# Altium schematic symbol library Mind Terrorists.SchLib: 174 symbols (part 1 of 2)
Pins are listed as number, name and electrical type; pins without a type are passive.

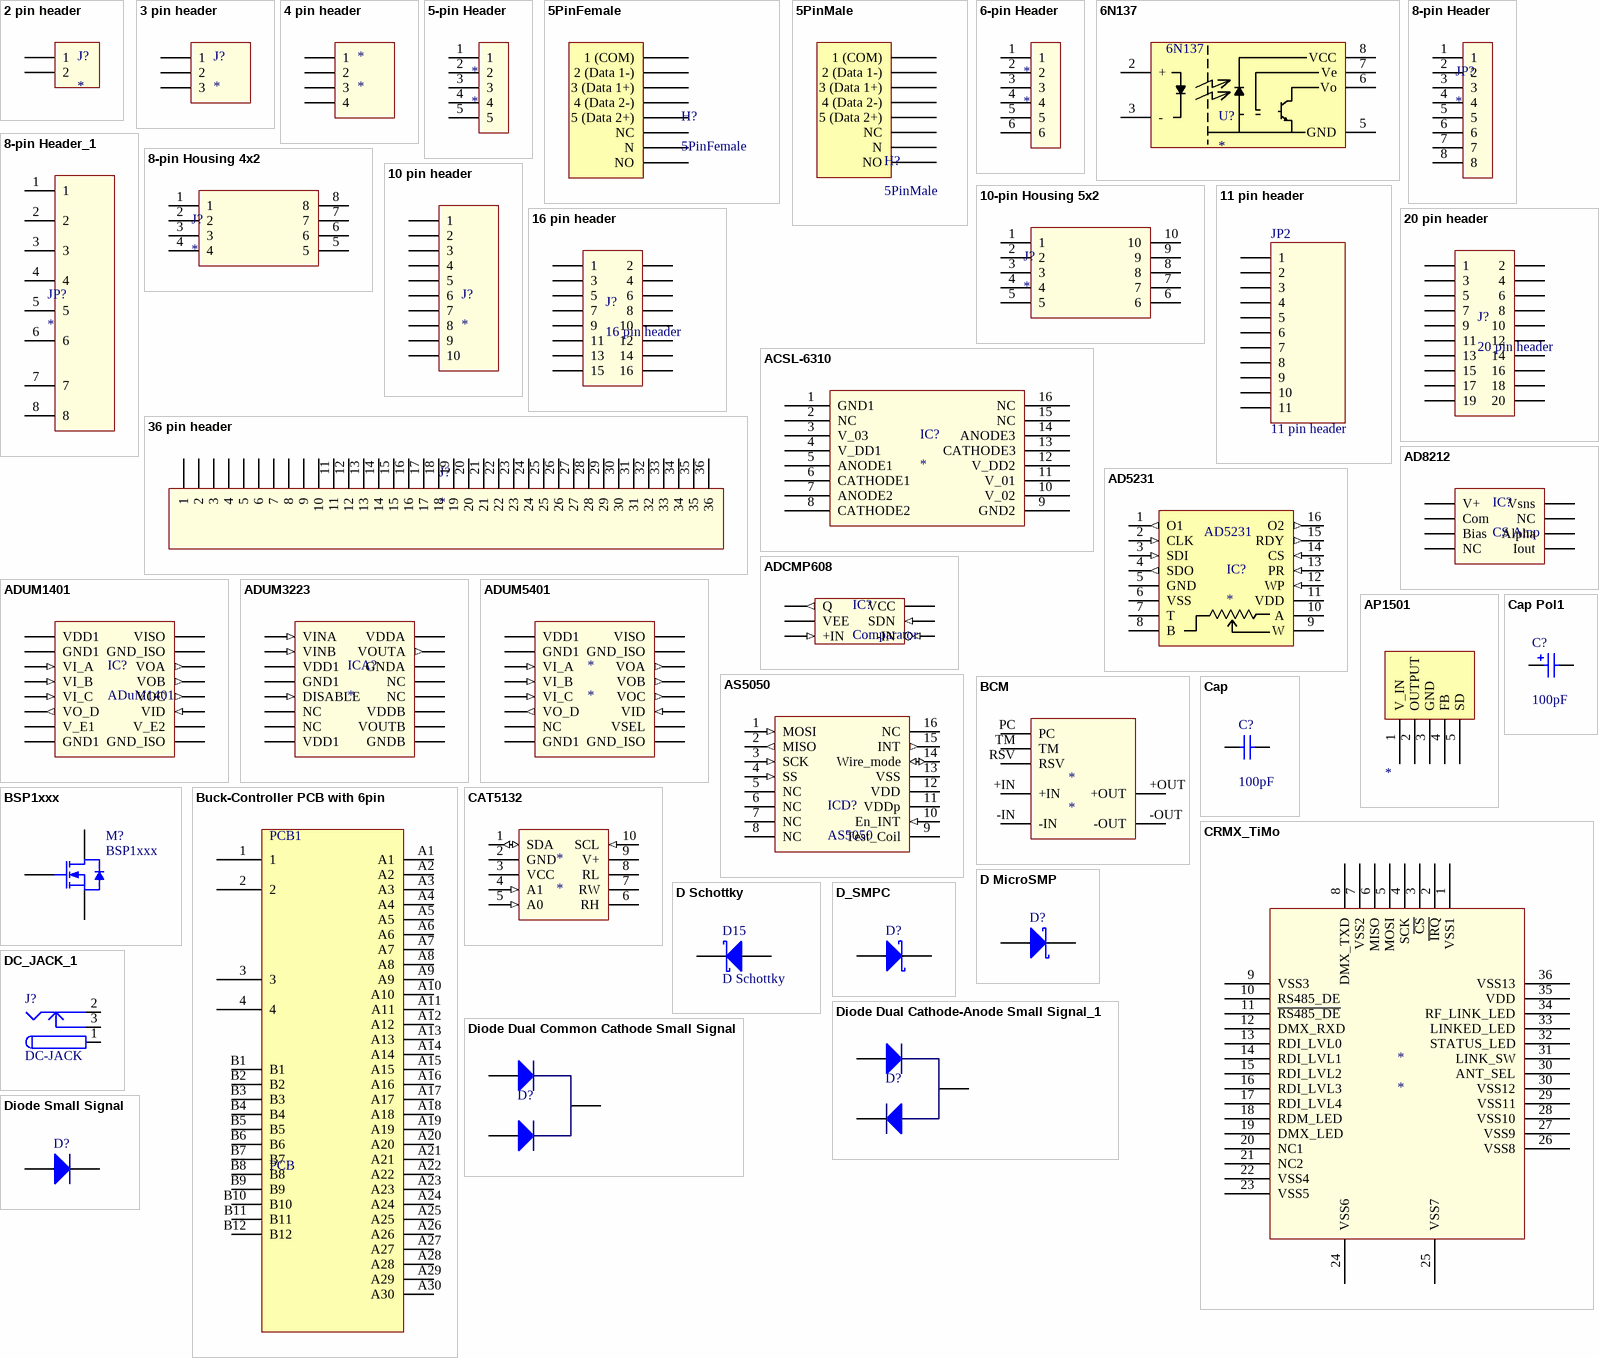
[diagram p0: symbols 2 pin header to Diode Small Signal]

## 2 pin header
designator J?
footprint Header, 1x2, Hybrid 2.54mm (1x2 Header, Hybrid 2.54mm pitch female above/below)
footprint IDC SSL 2 (TE Connectivity 2106003-4 Connecgtor for 18AWG)
footprint AVX 13-9159-2 (2 pin vert btb connector)
footprint AVX 20-9159-2 (2 pin horiz btb receptacle)
footprint Header, 1x2, THT 2.54mm (1x2 Header, THT 2.54mm pitch vertical unshrouded)
pins: 1, 2

## 3 pin header
designator J?
footprint SPOX-03-VE (Molex Spox 3 pin header SMT 1.5mm pitch Vert)
footprint SPOX-3-RA (Molex Spox 3 pin header SMT 1.5mm pitch)
footprint GHR-03V-S (JST GH Series 3 pin Horizontal SMT Header, 1.25mm pitch)
footprint Header, 1x3, SMT 2.54mm (1x3 Header, SMT 2.54mm pitch vertical unshrouded)
pins: 1, 2, 3

## 4 pin header
designator *
footprint SPOX-04-VE (Molex Spox 4 pin header SMT 1.5mm pitch Vert)
footprint AuFingers-4 (1mm Pitch Gold fingers edge connections, 6 contacts)
footprint RJ11_VERT_SMD (MOLEX 85513-5004 4/4)
footprint IDC SSL 4 (TE Connectivity 2106003-4 Connecgtor for 18AWG)
footprint AVX 13-9159-4 (4 pin vert btb connector)
footprint AVX 20-9159-4 (4 pin horiz btb receptacle)
footprint AVX 00-9159-004 - top (4 pin vert pcb top entry board receptacle)
footprint PCB-2-Screw Terminal (Screw Terminal)
pins: 1, 2, 3, 4

## 5-pin Header
designator *
footprint Molex 1.5mm SMT Header 05 (Molex 87437-05xx 5 pin Vertical SMT Header, 1.5mm pitch)
footprint ZH SM4 5 pin (ZH SM4 5 pin header SMT 1.5mm pitch R/A)
footprint AuFingers-5 (1mm Pitch Gold fingers edge connections, 6 contacts)
pins: 1, 2, 3, 4, 5

## 5PinFemale
designator H?
footprint NC5FAV-SW
pins: 1 1 (COM), 2 2 (Data 1-), 3 3 (Data 1+), 4 4 (Data 2-), 5 5 (Data 2+), N, NC, NO

## 5PinMale
designator H?
footprint NC5MAV-SW
pins: 1 1 (COM), 2 2 (Data 1-), 3 3 (Data 1+), 4 4 (Data 2-), 5 5 (Data 2+), N, NC, NO

## 6-pin Header
designator *
footprint Header, 2x3, SMT 2.54mm (2x3 Header, SMT 2.54mm pitch vertical unshrouded)
footprint AuFingers-6 (1mm Pitch Gold fingers edge connections, 6 contacts)
footprint Poke-Home (Poke-Home 6 way 9276 Wire to Board Connector)
footprint AVX 00-9159-006 - top (6 pin vert pcb top entry board receptacle)
pins: 1, 2, 3, 4, 5, 6

## 6N137
designator U?
10Mbps Opto-Isolator
pins: 1 N/C hidden, 2 + "Anode", 3 - "Cathode", 4 N/C hidden, 5 GND (power), 6 Vo "V out", 7 Ve "V e", 8 VCC (power)

## 8-pin Header
designator JP?
footprint Poke-Home 8 (Poke-Home 8 way 9276 Wire to Board Connector)
footprint RJ45_VERT_SMD (MOLEX 85510-5020 8/8)
footprint 50mm PFC PCB Card Edge Pattern-2 (Edge Connector Pattern)
footprint Header, 2x4, SMT 2.54mm (2x4 Header, SMT 2.54mm pitch vertical unshrouded)
pins: 1, 2, 3, 4, 5, 6, 7, 8

## 8-pin Header_1
designator JP?
footprint Poke-Home 8 (Poke-Home 8 way 9276 Wire to Board Connector)
footprint RJ45_VERT_SMD (MOLEX 85510-5020 8/8)
footprint 50mm PFC PCB Card Edge Pattern-2 (Edge Connector Pattern)
footprint Header, 2x4, SMT 2.54mm (2x4 Header, SMT 2.54mm pitch vertical unshrouded)
pins: 1, 2, 3, 4, 5, 6, 7, 8

## 8-pin Housing 4x2
designator J?
pins: 1, 2, 3, 4, 5, 6, 7, 8

## 10 pin header
designator J?
footprint SPOX-10-RA (Molex Spox 10 pin header SMT 1.5mm pitch)
footprint SPOX-10-VE (Molex Spox 10 pin header SMT 1.5mm pitch)
footprint Header, 2x5, SMT 1.27mm (2x5 Header, SMT 1.27 mm pitch vertical unshrouded)
pins: 1, 2, 3, 4, 5, 6, 7, 8, 9, 10

## 10-pin Housing 5x2
designator J?
footprint Header, 2x5, SMT 2.54mm (2x4 Header, SMT 2.54mm pitch vertical unshrouded)
pins: 1, 2, 3, 4, 5, 6, 7, 8, 9, 10

## 11 pin header
designator JP2
footprint SPOX-11-VE (Molex Spox 11 pin header SMT 1.5mm pitch)
pins: 1, 2, 3, 4, 5, 6, 7, 8, 9, 10, 11

## 16 pin header
designator J?
16 pin rectangular header
footprint Header, 2x8, SMT 2.54mm (2x8 Header, SMT 2.54mm pitch vertical unshrouded)
footprint Header, 2x8, SMT 1.27mm (2x8 Header, SMT 1.27 mm pitch vertical unshrouded)
pins: 1, 2, 3, 4, 5, 6, 7, 8, 9, 10, 11, 12, 13, 14, 15, 16

## 20 pin header
designator J?
20 pin rectangular header
footprint Header, 2x10, SMT 2.54mm (2x10 Header, SMT 2.54mm pitch vertical unshrouded)
pins: 1, 2, 3, 4, 5, 6, 7, 8, 9, 10, 11, 12, 13, 14, 15, 16, 17, 18, 19, 20

## 36 pin header
designator J?
footprint SmartDriver PCB Card Edge Pattern (1mm Pitch edge connection for 0.8mm PCB, 4 contacts)
pins: 1, 2, 3, 4, 5, 6, 7, 8, 9, 10, 11, 12, 13, 14, 15, 16, 17, 18, 19, 20, 21, 22, 23, 24, 25, 26, 27, 28, 29, 30, 31, 32, 33, 34, 35, 36

## ACSL-6310
designator IC?
Avago 15 Mbps Optocoupler Triple Ch Bi-direct (2/1)
footprint SO16 SMD Avago (Avago SO16, 16-Leads, Body 10.0x4.0mm (max), Pitch 1.27mm, IPC Medium Density)
pins: 1 GND1, 2 NC, 3 V_03, 4 V_DD1, 5 ANODE1, 6 CATHODE1, 7 ANODE2, 8 CATHODE2, 9 GND2, 10 V_02, 11 V_01, 12 V_DD2, 13 CATHODE3, 14 ANODE3, 15 NC, 16 NC

## AD5231
designator IC?
1024-Position Digital Potentiometer
footprint TSSOP 16 Leads (16-Lead Thin Shrink Small Outline Package [TSSOP], IPC Medium Density)
pins: 1 O1 (out) "Nonvolatile Digital Output 1", 2 CLK (in) "Serial Input Register Clock Pin", 3 SDI (in) "Serial Data Input Pin", 4 SDO (out) "Serial Data Output Pin", 5 GND (power) "Ground Pin", 6 VSS (power) "Negative Supply. Connect to 0 V for single-supply applications", 7 T "Reserved for factory testing. Connect to VDD or VSS", 8 B "Terminal B of RDAC.", 9 W "Wiper Terminal of RDAC", 10 A "Terminal A of RDAC", 11 VDD (power) "Positive Power Supply Pin", 12 WP (in) "Optional Write Protect Pin", 13 PR (in) "Optional Hardware Override Preset Pin", 14 CS (in) "Serial Register Chip Select Active Low", 15 RDY (out) "Ready. Active-high open-drain output", 16 O2 (out) "Nonvolatile Digital Output 2."

## AD8212
designator IC?, comment CS Amp
Current Sense Amp Current mode
footprint MSOP-8, 3mmx3mm, 0.65mm (MSOP, 8-Leads, Body 3.0x3.0mm (max), Pitch 0.65mm, IPC Medium Density)
pins: 1 V+, 2 Com, 3 Bias, 4 NC, 5 Iout, 6 Alpha, 7 NC, 8 Vsns

## ADCMP608
designator IC?, comment Comparator
40ns Comparator; Manufacturer: AD
pins: 1 Q (out), 2 VEE (power), 3 +IN (in), 4 -IN (in), 5 SDN (in), 6 VCC (power)

## ADUM1401
designator IC?, comment ADuM1401
ADuM1401 Isolator; Value: ADuM1401
footprint SOIC_W 16 (SOIC, 16-Leads, Body 10.5x7.6mm (max), Pitch 1.27mm, IPC Medium Density)
pins: 1 VDD1 (power), 2 GND1 (power), 3 VI_A (in), 4 VI_B (in), 5 VI_C (in), 6 VO_D (out), 7 V_E1, 8 GND1 (power), 9 GND_ISO (power), 10 V_E2 (power), 11 VID (in), 12 VOC (out), 13 VOB (out), 14 VOA (out), 15 GND_ISO (power), 16 VISO (power)

## ADUM3223
designator ICA?
HF Isolated Gate Driver
footprint SOIC127P600X175-16N (SOIC, 16-Leads, Body 10.0x4.0mm (max), Pitch 1.27mm, IPC Medium Density)
pins: 1 VINA (in), 2 VINB (in), 3 VDD1 (power), 4 GND1 (power), 5 DISABLE (in), 6 NC, 7 NC, 8 VDD1 (power), 9 GNDB (power), 10 VOUTB (power), 11 VDDB (power), 12 NC, 13 NC, 14 GNDA (power), 15 VOUTA (out), 16 VDDA (power)

## ADUM5401
designator *
footprint SOIC_W 16 (SOIC, 16-Leads, Body 10.5x7.6mm (max), Pitch 1.27mm, IPC Medium Density)
pins: 1 VDD1 (power), 2 GND1 (power), 3 VI_A (in), 4 VI_B (in), 5 VI_C (in), 6 VO_D (out), 7 NC, 8 GND1 (power), 9 GND_ISO (power), 10 VSEL (power), 11 VID (in), 12 VOC (out), 13 VOB (out), 14 VOA (out), 15 GND_ISO (power), 16 VISO (power)

## AP1501
designator ?
pins: 1 V_IN, 2 OUTPUT, 3 GND, 4 FB, 5 SD

## AS5050
designator ICD?
footprint AS5050 (QFN, 16-Leads, Body 4.0x4.0mm (max), Pitch 0.65mm, IPC Medium Density)
pins: 1 MOSI (in), 2 MISO (out), 3 SCK (in), 4 SS (in), 5 NC, 6 NC, 7 NC, 8 NC, 9 Test_Coil, 10 En_INT (in), 11 VDDp, 12 VDD (power), 13 VSS (power), 14 Wire_mode (io), 15 INT (out), 16 NC

## BCM
designator *
footprint BCM HV (Vicor High Voltage BCM)
pins: +IN (power), +OUT (power), -IN (power), -OUT (power), PC, RSV, TM

## BSP1xxx
designator M?
N-Channel Depletion Mode MOSFET
footprint PG-SOT-223 (SOT223, 4-Leads, Body 6.7x7.3mm (max), Pitch 2.30mm, IPC Medium Density); pin to pad 2>2+4
pins: 1 G, 2 D, 3 S

## Buck-Controller PCB with 6pin
designator PCB1, comment PCB
Value: N.B.; KZB: PCB
footprint Buck+Controller PCB Card Edge Pattern - 6pol (Edge Connector Pattern)
pins: 1, 2, 3, 4, A1, A2, A3, A4, A5, A6, A7, A8, A9, A10, A11, A12, A13, A14, A15, A16, A17, A18, A19, A20, A21, A22, A23, A24, A25, A26, A27, A28, A29, A30, B1, B2, B3, B4, B5, B6, B7, B8, B9, B10, B11, B12

## Cap
designator C?  value 100pF
Capacitor; Published: 8-Jun-2000; LatestRevisionDate: 17-Jul-2002; LatestRevisionNote: Re-released for DXP Platform.; PackageReference: RAD-0.3; Publisher: Altium Limited
footprint RAD-0.3 (Capacitor; 2 Leads)
footprint VP32-3.2 (Capacitor, Ceramic, Thru-Hole, Dipped Radial; Body 5.1 x 3.2 mm (WxT) Pin Spacing 2.54 mm (typ))
footprint VP45-3.2 (Capacitor, Ceramic, Thru-Hole, Dipped Radial; Body 7.8 x 3.2 mm (WxT) Pin Spacing 5.08 mm (typ))
simulation model CAP (Capacitor)
signal-integrity model Cap
footprint 0805 Resistor Reflow profile (0805 Chip Resistor, 2-Leads, Body 2.0x1.3mm, IPC Low Density)
footprint Chip Cap 2220 (Chip Capacitor, 2-Leads, Body 5.7x5.0mm, GRM55, C5750)
footprint Chip Cap 2220 w/ Slot (Chip Capacitor, 2-Leads, Body 5.7x5.0mm, GRM55, C5750)
footprint Chip Cap 0603 (Chip Capacitor, 2-Leads, Body 1.6x0.8mm, IPC Low Density)
footprint Chip Cap 0805 (0805  Chip Capacitor, 2-Leads, Body 2.0x1.3mm, IPC Low Density, Reflow Profile)
footprint Chip Cap 1206 (Chip Capacitor, 2-Leads, Body 3.2x1.6mm, IPC Low Density)
footprint Film Cap 6064 (Chip Film Capacitor, 6064 Package, IPC Medium Density)
footprint CHIP CAP 1210 (1210 Chip Capacitor, 2-Leads, Body 3.2x2.5mm, IPC Low Density)
pins: 1, 2

## Cap Pol1
designator C?  value 100pF
Polarized Capacitor (Radial); Published: 8-Jun-2000; LatestRevisionDate: 17-Jul-2002; LatestRevisionNote: Re-released for DXP Platform.; PackageReference: RB7.6-15; Publisher: Altium Limited
footprint RB7.6-15 (Polarized Capacitor (Radial); 2 Leads)
footprint HA-C1 (Capacitor, Radial, Tantalum; Body 1.7 x 2.8 mm (Dia.xH max); Pin Spacing 1.27 mm (typ))
footprint A (Capacitor, Electrolytic, Radial; Body 4 x 5 mm (Dia.xH typ); Pin Spacing 1.5 mm (typ))
footprint B (Capacitor, Electrolytic, Radial; Body 5 x 6.8 mm (Dia.xH typ); Pin Spacing 2 mm (typ))
footprint CAPPR5-5x5 (Capacitor, Electrolytic, Radial; Body 5 x 5 mm (Dia.xH typ); Pin Spacing 5 mm (typ))
footprint CAPPR7.5-16x35 (Capacitor, Electrolytic, Radial; Body 16 x 35 mm (Dia.xH typ); Pin Spacing 7.5 mm (typ))
simulation model CAP (Capacitor)
signal-integrity model Cap Pol
footprint C-TANTALUM
footprint RADIAL CAPACITOR - 1uF
footprint RADIAL CAPACITOR - 1000uF
footprint Tantalum Cap Size D (Tantalum D Cap, 2-Leads, Body 7.3x4.3mm, IPC Medium Density)
footprint VZH 10mm Cap (SMT Aluminum Capacitor 2-Leads, Body 10.4x10.4mm, IPC Medium Density)
pins: 1, 2
1 alternate drawing of the same symbol

## CAT5132
designator *
footprint 10-Lead MSOP Package (National Semiconductor Package Number MUB10A 10-Lead MSOP Package)
pins: 1 SDA (io), 2 GND (power), 3 VCC (power), 4 A1 (in), 5 A0 (in), 6 RH, 7 RW, 8 RL, 9 V+, 10 SCL (in)

## CRMX_TiMo
designator *
footprint TiMo-RX-RDM
pins: 1 VSS1, 2 ~{IRQ}, 3 ~{CS}, 4 SCK, 5 MOSI, 6 MISO, 7 VSS2, 8 DMX_TXD, 9 VSS3, 10 RS485_DE, 11 ~{RS485_DE}, 12 DMX_RXD, 13 RDI_LVL0, 14 RDI_LVL1, 15 RDI_LVL2, 16 RDI_LVL3, 17 RDI_LVL4, 18 RDM_LED, 19 DMX_LED, 20 NC1, 21 NC2, 22 VSS4, 23 VSS5, 24 VSS6, 25 VSS7, 26 VSS8, 27 VSS9, 28 VSS10, 29 VSS11, 30 VSS12, 30 ANT_SEL, 31 LINK_SW, 32 STATUS_LED, 33 LINKED_LED, 34 RF_LINK_LED, 35 VDD, 36 VSS13

## D MicroSMP
designator D?, comment D MicroSMP Schottky  (value not drawn)
MicroSMP Schottky Diode; PackageReference: SMPC; Code_JEDEC: DO-277-A
signal-integrity model D Schottky
footprint MicroSMP (Molded Diode, 2-Leads, Body 2.2x1.3mm, IPC Medium Density)
pins: 1 K, 2 A

## D Schottky
designator D15
Schottky Diode; Part Number: ES1J; Value: 600v/1A; Order Number: 1498951; Supplier: Farnell; Package: SMA DO-214AC
footprint SMB (DO-214-AA/SMB; 2 C-Bend Leads; Body 5.3 x 3.6 mm, inc. leads (LxW))
footprint SMA DO-214AC (Molded Diode, 2-Leads, Body 4.3x2.7mm, IPC Medium Density)
footprint SOT-23-OnSemi (SOT23-3); pin to pad 1>3 2>1
pins: 1 K, 2 A

## D_SMPC
designator D?, comment SMPC Schottky  (value not drawn)
SMPC Schottky Diode; PackageReference: SMPC; Code_JEDEC: DO-277-A
signal-integrity model D Schottky
footprint SMPC (TO-277A (SMPC) Package)
footprint eSMPC (TO-277A (SMPC) Package)
pins: 1 A, 2 K

## DC_JACK_1
designator J?, comment DC-JACK
Low Voltage Power Supply Connector; Published: 17-Dec-2003; DatasheetDocument: 09-May-2002; Publisher: Altium Limited; ComponentLink1Description: Manufacturer Link; ComponentLink1URL: http://domino.kycon.com/internet/Products.html
signal-integrity model Connector
footprint DC-JACK-1.0-4.5 (DC Power Jack 4.5mm DIa, 1.0mm pin)
pins: 1 (power), 2 (power), 3 (power)

## Diode Dual Cathode-Anode Small Signal_1
designator D?, comment Diode  (value not drawn)
Dual Cathode-Anode Small Signal Diode
footprint SOT-23-OnSemi (SOT23-3)
pins: 1 A, 2 K, 3 KA

## Diode Dual Common Cathode Small Signal
designator D?, comment Diode  (value not drawn)
Small Signal Diode; PackageReference: SMPC; Code_JEDEC: DO-277-A
footprint SOT-23-OnSemi (SOT23-3)
pins: 1 A, 2 A, 3 K

## Diode Small Signal
designator D?, comment Diode  (value not drawn)
Small Signal Diode; PackageReference: SMPC; Code_JEDEC: DO-277-A
signal-integrity model D Schottky
footprint SOD-80/Mini-MELF (SOD-80/Mini-MELF Diode, 2-Leads, Body 3.5x1.5mm, IPC Low Density)
footprint SOD123-1 (SOD123 Diode, Body 2.7x1.6mm, IPC Low Density)
footprint 0603 Diode (Molded Diode, 2-Leads, Body 1.7x0.9mm, IPC Medium Density)
footprint SOT-23-OnSemi (SOT23-3); pin to pad 1>3 2>1
pins: 1 K, 2 A

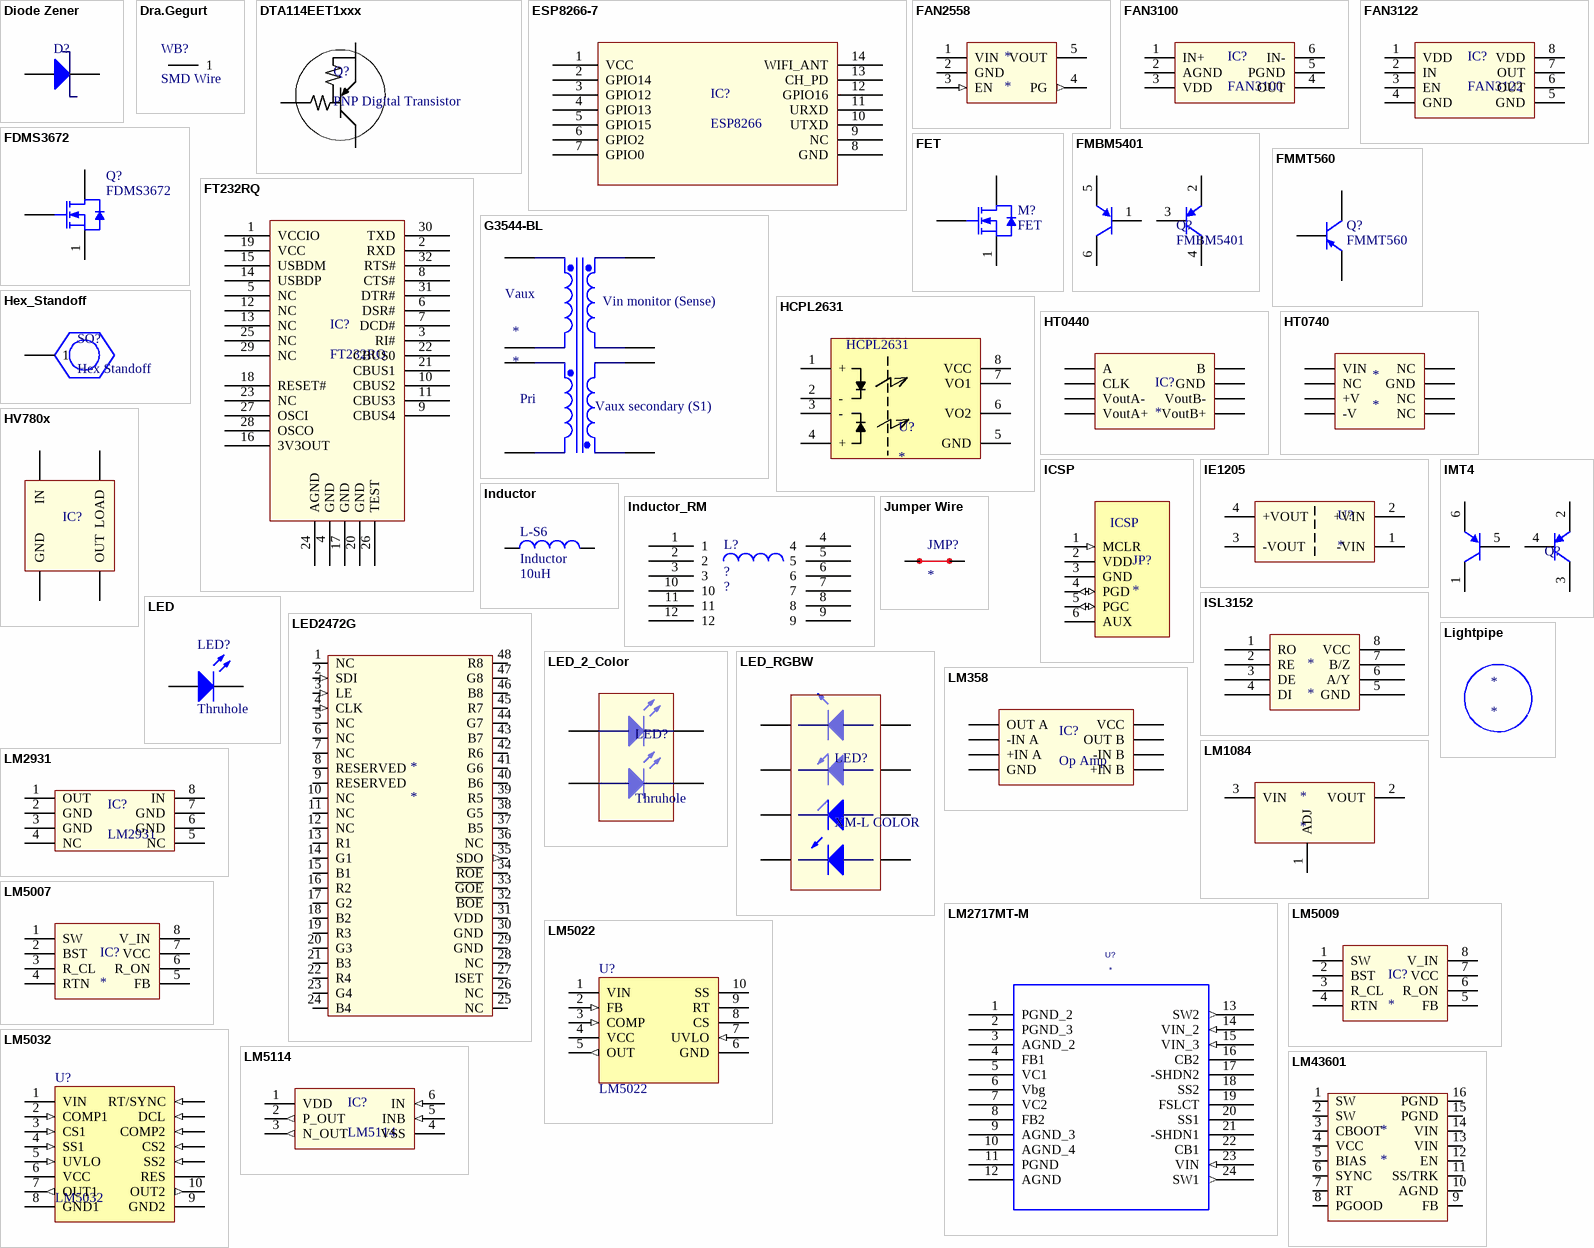
[diagram p1: symbols Diode Zener to LM43601]

## Diode Zener
designator D?, comment Diode  (value not drawn)
Miniature Zener Diode; PackageReference: SMPC; Code_JEDEC: DO-277-A
footprint SOD-80/Mini-MELF (SOD-80/Mini-MELF Diode, 2-Leads, Body 3.5x1.5mm, IPC Low Density)
footprint Model Name (Footprint not found)
footprint DIOM1608X07N (Molded Diode, 2-Leads, Body 1.2x0.8mm, IPC Medium Density)
pins: 1 K, 2 A

## Dra.Gegurt
designator WB?, comment SMD Wire
Lagernummer: 3334
footprint WB_3x85 (3mm x 85mm pad for high current reinforcement)
footprint WB_3x60 (3mm x 60mm pad for high current reinforcement)
footprint WB_3x55 (3mm x 55mm pad for high current reinforcement)
footprint WB_3x40 (3mm x 40mm pad for high current reinforcement)
pins: 1 (power)

## DTA114EET1xxx
designator Q?, comment PNP Digital Transistor
pins: 1 B "Cathode", 2 o "Anode", 3 E

## ESP8266-7
designator IC?, comment ESP8266
Value: ESP8266
footprint ESP8266-7 (ESP8266 WIFI Module ESP-07)
pins: 1 VCC, 2 GPIO14, 3 GPIO12, 4 GPIO13, 5 GPIO15, 6 GPIO2, 7 GPIO0, 8 GND, 9 NC, 10 UTXD, 11 URXD, 12 GPIO16, 13 CH_PD, 14 WIFI_ANT

## FAN2558
designator *
footprint SOT-23-5 (SOT-23-5 Package)
pins: 1 VIN (power), 2 GND (power), 3 EN (in), 4 PG (out), 5 VOUT (power)

## FAN3100
designator IC?
Low Side Fet Driver 2A
footprint MLP-6 2x2mm (MLP, 6-Leads, Body 2.0x2.0mm, Pitch 0.65mm, Fairchild MLP, IPC Medium Density)
pins: 1 IN+, 2 AGND, 3 VDD, 4 OUT, 5 PGND, 6 IN-

## FAN3122
designator IC?
Low Side Fet Driver 9A
footprint 3x3mm Fairchild MLP (QFN, 8-Leads, Body 3.0x3.0mm (max), Pitch 0.65mm, IPC Medium Density)
pins: 1 VDD, 2 IN, 3 EN, 4 GND, 5 GND, 6 OUT, 7 OUT, 8 VDD, 9 GND (power) hidden to GND

## FDMS3672
designator Q?
N-Channel 100V (D-S)  MOSFET; Published: 8-Jun-2000; LatestRevisionDate: 13-Apr-2006; LatestRevisionNote: IPC-7351 Footprint Added.; DatasheetVersion: 24-Feb-1998; PackageVersion: Aug-1998; PackageReference: Power56; PackageDescription: Power56; ComponentLink1Description: Manufacturer Link; ComponentLink1URL: http://www.fairchildsemi.com/; ComponentLink2Description: Datasheet
footprint Power56 (Power56 Package for Fairchild N-Channel UltraFET Trench MOSFET)
pins: 1 G, 2 S, 3 D

## FET
designator M?
N-Channel MOSFET; Manufacturer: Fairchild; Part Number: FDMS86201
footprint Power56 (Power56 Package for Fairchild N-Channel UltraFET Trench MOSFET)
footprint Power56_1 (Power56 Package for Fairchild N-Channel UltraFET Trench MOSFET)
pins: 1 G, 2 S, 3 D

## FMBM5401
designator Q?
PNP General Purpose Amplifier; Published: 8-Jun-2000; LatestRevisionDate: 17-Jan-2003; LatestRevisionNote: PCB Footprint 'BCY-W3/D4.7' replaced; DatasheetDocument: 1997; PackageDocument: Sep-1998; PackageReference: TO-92A; Publisher: Altium Limited; ComponentLink1Description: Manufacturer Link; ComponentLink1URL: http://www.fairchildsemi.com/; ComponentLink2Description: Datasheet; ComponentLink2URL: http://www.fairchildsemi.com/ds/2N%2F2N5401.pdf
footprint SuperSOT-6 (Fairchild SuperSOT-6 Dual Transistor Package)
pins: 1 B1, 2 E2, 3 B2, 4 C2, 5 E1, 6 C1

## FMMT560
designator Q?
PNP Bipolar Transistor
signal-integrity model NPN
footprint SOT-23 (SOT23-3)
pins: B, C, E

## FT232RQ
designator IC?
Value: FT232RQ
footprint FTDI QFN32 (QFN, 32-Leads, Body 5x5mm, Pitch 0.50mm, IPC Medium Density); pin to pad 4>4+33
pins: 1 VCCIO, 2 RXD, 3 RI#, 4 GND, 5 NC, 6 DSR#, 7 DCD#, 8 CTS#, 9 CBUS4, 10 CBUS2, 11 CBUS3, 12 NC, 13 NC, 14 USBDP, 15 USBDM, 16 3V3OUT, 17 GND, 18 RESET#, 19 VCC, 20 GND, 21 CBUS1, 22 CBUS0, 23 NC, 24 AGND, 25 NC, 26 TEST, 27 OSCI, 28 OSCO, 29 NC, 30 TXD, 31 DTR#, 32 RTS#

## G3544-BL
designator *
pins: 1 P1+, 2 P1-, 3 Paux+, 4 Paux-, 5 S1+, 6 SNS-, 7 SNS+, 8 S1-
text: Vaux; Vin monitor (Sense); Pri; Vaux secondary (S1)

## HCPL2631
designator U?
pins: 1 + "Anode", 2 - "Cathode", 3 - "Cathode", 4 + "Anode", 5 GND (power), 6 VO2 "Out 2", 7 VO1 "Out 1", 8 VCC (power)

## Hex_Standoff
designator SO?, comment Hex Standoff
footprint M3 Hex Standoff
pins: 1 (power)

## HT0440
designator IC?
footprint SO8 Intersil (SOIC, 8-Leads, Body 5.0x4.0mm (max), Pitch 1.27mm, IPC Medium Density)
pins: 1 A, 2 CLK, 3 VoutA-, 4 VoutA+, 5 VoutB+, 6 VoutB- (power), 7 GND, 8 B

## HT0740
designator *
footprint SO8 Intersil (SOIC, 8-Leads, Body 5.0x4.0mm (max), Pitch 1.27mm, IPC Medium Density)
pins: 1 VIN, 2 NC, 3 +V, 4 -V, 5 NC, 6 GND (power), 7 NC, 8 NC

## HV780x
designator IC?  (value not drawn)
HS Current Sense Amp 8.0 to 450V
footprint SOT23-5 K1 SuperTex (SOT23, 5-Leads, Body 3.0x3.0mm (max), Pitch 0.95mm, IPC Medium Density)
pins: 1 LOAD, 2 NC hidden, 3 IN, 4 GND (power), 5 OUT

## ICSP
designator JP?
Microchip ICSP Connector
pins: 1 MCLR (in) "VPP", 2 VDD (power) "Supply Voltage", 3 GND (power) "Ground", 4 PGD (io) "Programming Pin", 5 PGC (io) "Programming Pin", 6 AUX "NC"

## IE1205
designator U?
Isolated DC-DC Converter 12V-5V
footprint SIP4-SM
footprint NTE-8 (Murata NTE DC-DC 8 pin); pin to pad 2>3 3>7 4>8
pins: 1 -VIN (power) "Negative Supply Voltage", 2 +VIN (power) "Positive Supply Voltage", 3 -VOUT (power) "Negative Output Voltage", 4 +VOUT (power) "Positive Output Voltage"

## IMT4
designator Q?  (value not drawn)
Dual PNP General Purpose Amplifier; Published: 8-Jun-2000; LatestRevisionDate: 17-Jan-2003; LatestRevisionNote: PCB Footprint 'BCY-W3/D4.7' replaced; DatasheetDocument: 1997; PackageDocument: Sep-1998; PackageReference: TO-92A; Publisher: Altium Limited; ComponentLink1Description: Manufacturer Link; ComponentLink1URL: http://www.fairchildsemi.com/; ComponentLink2Description: Datasheet; ComponentLink2URL: http://www.fairchildsemi.com/ds/2N%2F2N5401.pdf
footprint SOT-457 (SOT-457, 6-Leads, Body 3.0x2.9mm (max), Pitch 0.95mm, IPC Medium Density)
pins: 1 C1, 2 E2, 3 C2, 4 B2, 5 B1, 6 E1

## Inductor
designator L-S6  value 10uH
Manufacturer: Coilcraft; Part Number: SER1360-103KL; Lagernummer: 254; Projekt/Such-Nr.: ESPE 1098 Converter; DA: UH; DB: A; WERT: 10; ZUZATZ: 6.2; RM: #  13 X 13; KZB: L-S; TYP: SER1360; NAME: Inductor-SMD; Layer: Bottom; NOTE: Remove from Old PCBs if necessary; Bestellnummer-Lieferant: SER1360-103KL; Lieferant: Coilcraft; Bezeichnung: 10uH
footprint 0402-A (Chip Inductor; Body 1 x 0.5 mm (LxW typ))
footprint L0603 (Chip Inductor; Body 1.6 x 0.8 mm (LxW typ))
footprint 2012_Chip (2012 Chip; Chip Inductor; Body 2.0 x 1.2 mm (LxW typ))
footprint 2029 (Chip Inductor; Body 2 x 1.2 mm (LxW typ))
footprint 3261 (3216 Chip; Chip Inductor; Body 3.2 x 1.6 mm (LxW typ))
footprint 4564_Chip (4564 Chip; Chip Inductor; Body 4.5 x 6.4 mm (LxW typ))
simulation model INDUCTOR (Inductor)
signal-integrity model Inductor
footprint SER2918H-xxx (Coilcraft Power Inductor)
footprint SER1360 (Coilcraft Power Inductor)
footprint SER1360 High Density
footprint SER1360 - High Density
pins: 1, 2

## Inductor_RM
designator L?, comment ?
Inductor; KZB: L; Manufacturer: ?; Part Number: ?; Lagernummer: ?; Bestellnummer-Lieferant: ?; Lieferant: ?; Value: ?
signal-integrity model Inductor
footprint RM8_2255 (THT, Body 21.59x12.59mm, 12Pin, Pitch 2.54mm)
pins: 1, 2, 3, 4, 5, 6, 7, 8, 9, 10, 11, 12

## ISL3152
designator *
pins: 1 RO, 2 RE, 3 DE, 4 DI, 5 GND, 6 A/Y, 7 B/Z, 8 VCC

## Jumper Wire
designator JMP?
Jumper Wire
footprint Jumper Wire 0.5
footprint Zierick 1179 Jumper (Jumper 2-Leads, Body 12,32x1,78mm, IPC Medium Density)
pins: 1 (power), 2 (power)

## LED
designator LED?, comment Thruhole
LED Lamp
signal-integrity model LED
footprint LED-Polarized
footprint LED-Polarized - 3mm
footprint LED 5mm Standard
footprint PLCC-4 (PLCC, 84Leads, Body 3.7x3.7mm (max), Pitch 1.400mm, IPC Medium Density)
footprint W1643J (LED, 2-Leads, Body 5.0x5.0mm, IPC Medium Density)
pins: 1, 2

## LED2472G
designator *
footprint TQFP48 - EP (TQFP Package)
footprint TQFP48 - EP (TQFP Package)
pins: 1 NC (power), 2 SDI (in), 3 LE (in), 4 CLK (in), 5 NC, 6 NC, 7 NC, 8 RESERVED, 9 RESERVED, 10 NC, 11 NC, 12 NC, 13 R1, 14 G1, 15 B1, 16 R2, 17 G2, 18 B2, 19 R3, 20 G3, 21 B3, 22 R4, 23 G4, 24 B4, 25 NC, 26 NC, 27 ISET, 28 NC, 29 GND, 30 GND, 31 VDD, 32 ~{BOE}, 33 ~{GOE}, 34 ~{ROE}, 35 SDO (out), 36 NC (power), 37 B5, 38 G5, 39 R5, 40 B6, 41 G6, 42 R6, 43 B7, 44 G7, 45 R7, 46 B8, 47 G8, 48 R8

## LED_2_Color
designator LED?, comment Thruhole
2 Die LED Lamp
footprint PLCC-4 - 2 COLOR (PLCC, 4 Leads, Body 3.7x3.7mm (max), Pitch 1.400mm, IPC Medium Density)
pins: 1, 2, 3, 4

## LED_RGBW
designator LED?, comment XM-L COLOR
RGBW LED
footprint XM-L Color (XM-L Color 8 pin LED with Cooling pad 5 x 5 mm)
footprint LZ4_LED (LedEngin LZ4 Emitter); pin to pad 1>5 2>6 3>7 4>8 5>1 6>2 7>3 8>4
pins: 1, 2, 3, 4, 5, 6, 7, 8

## Lightpipe
designator *
footprint LPC054 (Hole for lightpipe)

## LM358
designator IC?, comment Op Amp
Single Supply Op Amp
footprint Micro8 (MSOP, 8-Leads, Body 3.1x3.1mm (max), Pitch 0.65mm, IPC Medium Density)
pins: 1 OUT A, 2 -IN A, 3 +IN A, 4 GND, 5 +IN B, 6 -IN B, 7 OUT B, 8 VCC

## LM1084
designator *
footprint TO254P1428X470-4N (D2-PAK, 4-Pads, Body 8.8x10.4mm (max), IPC Medium Density)
pins: 1 ADJ, 2 VOUT, 3 VIN

## LM2717MT-M
designator U?
LM2717MT-M; CompType: Switcher; Vendor: NationalSemiconductor; base_pn: LM2717; Symbol: NameLM2717MT; Value: Value; PartNumber: LM2717MT; Version: 05/02/2007
footprint MTC24-M
pins: 1 PGND_2, 2 PGND_3, 3 AGND_2, 4 FB1, 5 VC1, 6 Vbg, 7 VC2, 8 FB2, 9 AGND_3, 10 AGND_4, 11 PGND, 12 AGND, 13 SW2 (out), 14 VIN_2 (in), 15 VIN_3 (in), 16 CB2, 17 -SHDN2, 18 SS2, 19 FSLCT, 20 SS1, 21 -SHDN1, 22 CB1, 23 VIN (in), 24 SW1 (out)

## LM2931
designator IC?
LDO Voltage Regulator 100 mA
footprint SOIC-8 NB (SOIC, 8-Leads, Body 5.0x4.0mm (max), Pitch 1.27mm, IPC Medium Density)
pins: 1 OUT (power), 2 GND (power), 3 GND (power), 4 NC, 5 NC, 6 GND (power), 7 GND (power), 8 IN (power)

## LM5007
designator IC?
High Voltage (80V) Step Down Switching Regulator
pins: 1 SW, 2 BST, 3 R_CL, 4 RTN (power), 5 FB, 6 R_ON, 7 VCC (power), 8 V_IN (power)

## LM5009
designator IC?
150 mA, 100V Step-Down Switching Regulator
pins: 1 SW, 2 BST, 3 R_CL, 4 RTN (power), 5 FB, 6 R_ON, 7 VCC (power), 8 V_IN (power)

## LM5022
designator U?
Low Side Current Mode Controller; LatestRevisionDate: August 2007; DatasheetVersion: 2007; PackageVersion: Rev B; PackageReference: MUB10A; PackageDescription: 10 Lead MSOP Package; ComponentLink2URL: http://www.onsemi.com/pub/Collateral/UC3842B.PDF
footprint 10-Lead MSOP Package (National Semiconductor Package Number MUB10A 10-Lead MSOP Package)
pins: 1 VIN (power), 2 FB (in), 3 COMP (in), 4 VCC (power), 5 OUT (out), 6 GND (power), 7 UVLO (in), 8 CS, 9 RT, 10 SS (power)

## LM5032
designator U?
Dual Interleaved Current Mode Controller; LatestRevisionDate: March 2013; DatasheetVersion: 02 Mar 2005; PackageVersion: 2/11; PackageReference: PW (R-PDSO-G16); PackageDescription: TSSOP-16; ComponentLink2URL: http://www.ti.com/product/lm5032
footprint TSSOP 16 Leads (16-Lead Thin Shrink Small Outline Package [TSSOP], IPC Medium Density)
pins: 1 VIN (power), 2 COMP1 (in), 3 CS1 (in), 4 SS1 (in), 5 UVLO (in), 6 VCC (power), 7 OUT1 (out), 8 GND1 (power), 9 GND2 (power), 10 OUT2 (out), 11 RES, 12 SS2 (in), 13 CS2 (in), 14 COMP2 (in), 15 DCL (in), 16 RT/SYNC (in)

## LM5114
designator IC?
Low Side Fet Driver 7.6A
pins: 1 VDD (power), 2 P_OUT (out), 3 N_OUT (out), 4 VSS (power), 5 INB (in), 6 IN (in)

## LM43601
designator *
footprint LM4360x (TSSOP, 16-Leads, Body 5,00x4,40mm, Pitch 0,65mm, Thermal Pad 3,29.2x2,41.2mm, IPC High Density)
pins: 1 SW (power), 2 SW (power), 3 CBOOT (power), 4 VCC (power), 5 BIAS (power), 6 SYNC (power), 7 RT (power), 8 PGOOD (power), 9 FB (power), 10 AGND (power), 11 SS/TRK (power), 12 EN (power), 13 VIN (power), 14 VIN (power), 15 PGND (power), 16 PGND (power)

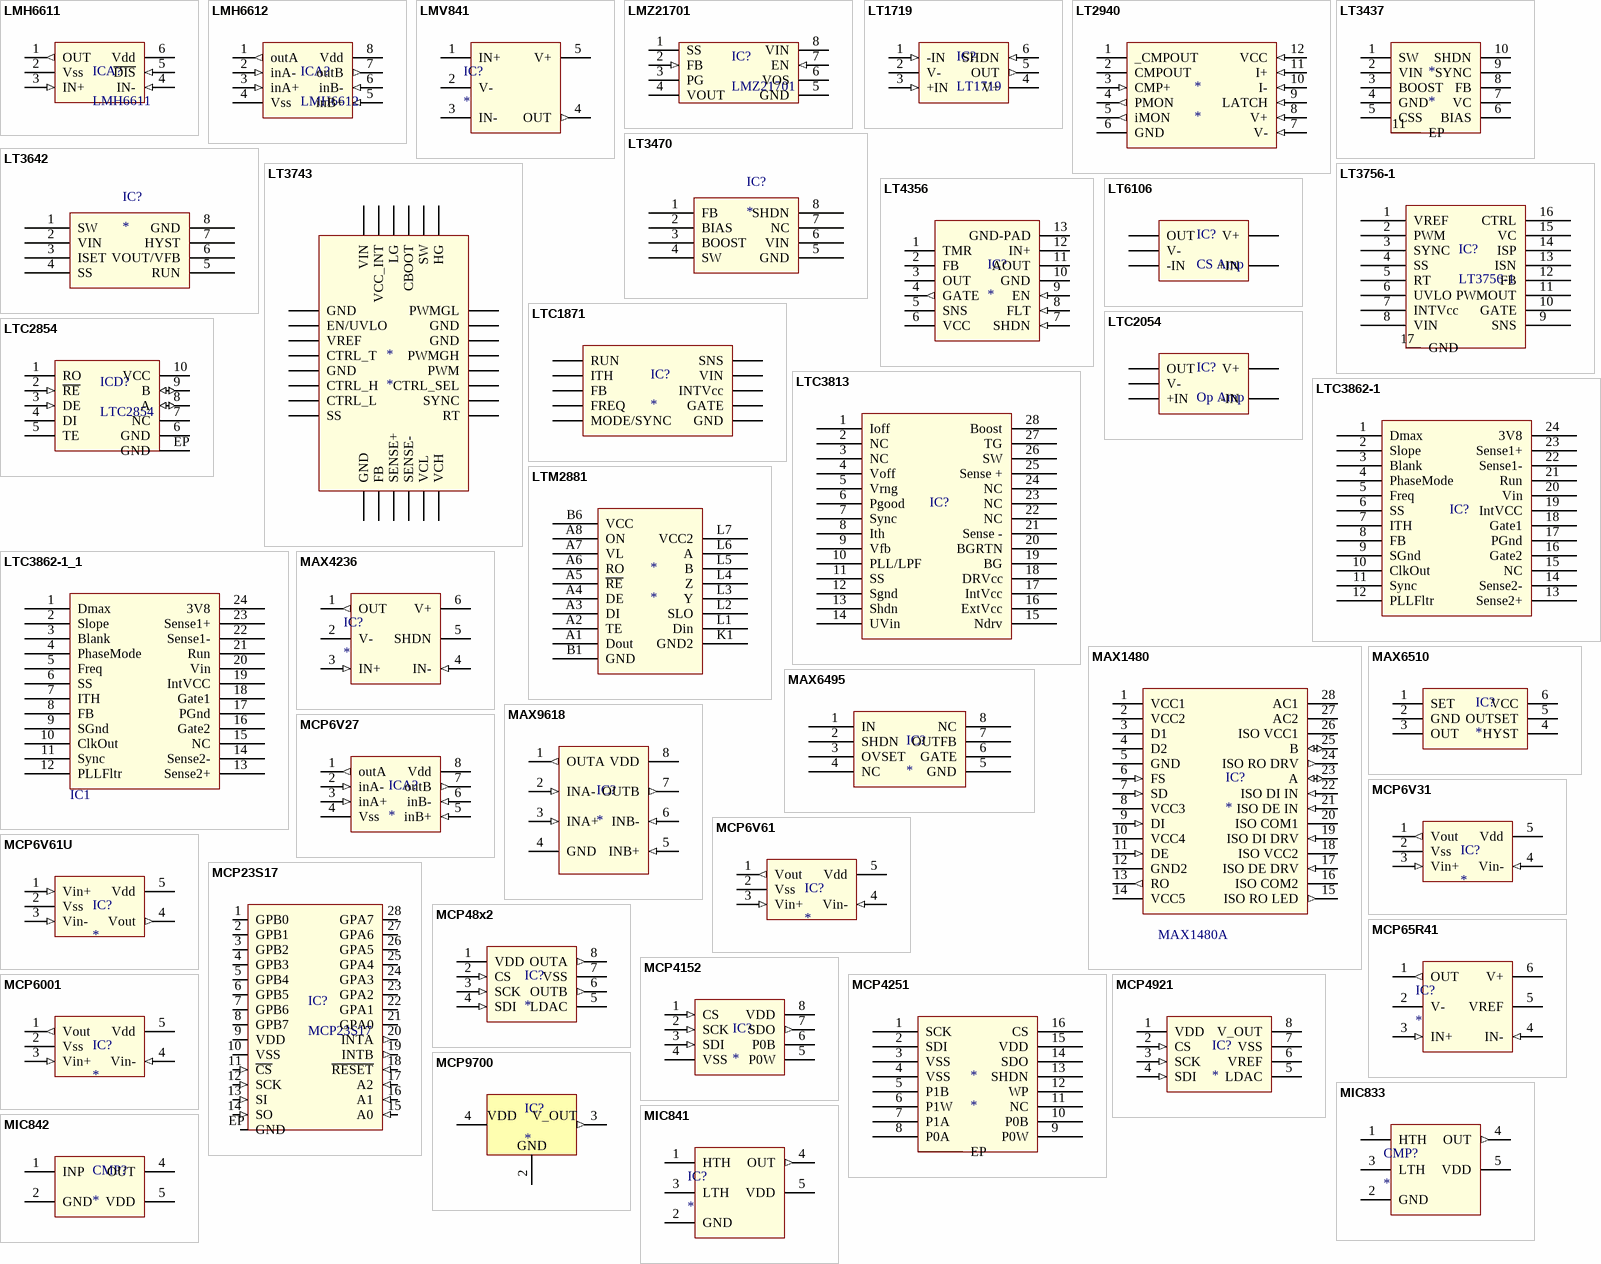
[diagram p2: symbols LMH6611 to MIC842]

## LMH6611
designator ICA?
Single Supply 345 MHz Rail-to-Rail Output Amplifier
footprint DDC (R-PDSO-G6) (TSOP, 6-Leads, Body 2,90x1,60mm, Pitch 0,95mm, IPC High Density)
pins: 1 OUT (out), 2 Vss (power), 3 IN+ (in), 4 IN- (in), 5 ~{DIS} (in), 6 Vdd (power)

## LMH6612
designator ICA?
Single Supply 345 MHz Rail-to-Rail Output Amplifiers
pins: 1 outA (out), 2 inA- (in), 3 inA+ (in), 4 Vss (power), 5 inB+ (in), 6 inB- (in), 7 outB (out), 8 Vdd (power)

## LMV841
designator IC?
CMOS Input, RRIO, Wide Supply Range Operational  Amplifier
pins: 1 IN+ "High Threshold", 2 V- (power) "Ground", 3 IN- "Low Threshold", 4 OUT (out) "Output", 5 V+ (power) "Supply Voltage"

## LMZ21701
designator IC?
1 A Nano Module with 17 V Maximum Input Voltage
footprint SIL0008E (MicroSIP, 8-Leads, Body 3,50x3,50mm, Pitch 0,80mm, IPC High Density)
pins: 1 SS, 2 FB (in), 3 PG (oc), 4 VOUT (power), 5 GND (power), 6 VOS, 7 EN (in), 8 VIN (power)

## LT1719
designator IC?
4.5ns Single/Dual Supply  3V/5V Comparator with  Rail-to-Rail Output; Value: LT1719
pins: 1 -IN (in), 2 V- (power), 3 +IN (in), 4 V+ (power), 5 OUT (out), 6 SHDN (in)

## LT2940
designator *
footprint DD package (12-Lead Plastic DFN 3mm x 3mm)
pins: 1 _CMPOUT (oc), 2 CMPOUT (oc), 3 CMP+ (in), 4 PMON (out), 5 iMON (out), 6 GND (power), 7 V- (in), 8 V+ (in), 9 LATCH (in), 10 I- (in), 11 I+ (in), 12 VCC (in), 13 hidden to GND

## LT3437
designator *
pins: 1 SW, 2 VIN, 3 BOOST, 4 GND, 5 CSS, 6 BIAS, 7 VC, 8 FB, 9 SYNC, 10 SHDN, 11 EP

## LT3470
designator IC?
footprint Linear DDB (Linear DDB, DFN-8, 2mm x 3mm)
pins: 1 FB, 2 BIAS, 3 BOOST, 4 SW, 5 GND, 6 VIN, 7 NC, 8 SHDN

## LT3642
designator IC?
footprint Linear DD DFN-8 (DFN, 8 Leads 0.5mm Pitch, 3x3mm, Linear DD)
pins: 1 SW, 2 VIN, 3 ISET, 4 SS, 5 RUN, 6 VOUT/VFB, 7 HYST, 8 GND

## LT3743
designator *
footprint QFN50P400X500X100-28N (UFD) (QFN, 28-Leads, Body 5.0x4.0mm (max), Pitch 0.50mm, IPC Medium Density)
pins: 1 GND, 2 EN/UVLO, 3 VREF, 4 CTRL_T, 5 GND, 6 CTRL_H, 7 CTRL_L, 8 SS, 9 GND, 10 FB, 11 SENSE+, 12 SENSE-, 13 VCL, 14 VCH, 15 RT, 16 SYNC, 17 CTRL_SEL, 18 PWM, 19 PWMGH, 20 GND, 21 GND, 22 PWMGL, 23 HG, 24 SW, 25 CBOOT, 26 LG, 27 VCC_INT, 28 VIN

## LT3756-1
designator IC?
LED Driver w/ 100v High Side CS
footprint QFN-16 3x3 UD (QFN, 16-Leads, Body 3.x3mm, Pitch 0.50mm, Linear UD, IPC Medium Density)
footprint MSE 16 (16-Lead Plastic MSOP, Exposed Die Pad , LTC); pin to pad 1>7 2>8 3>9 4>10 5>11 6>12 7>13 8>14 9>15 10>16 11>1 12>2 13>3 14>4 15>5 16>6
pins: 1 VREF, 2 PWM, 3 SYNC, 4 SS, 5 RT, 6 UVLO, 7 INTVcc, 8 VIN, 9 SNS, 10 GATE, 11 PWMOUT, 12 FB, 13 ISN, 14 ISP, 15 VC, 16 CTRL, 17 GND

## LT4356
designator IC?
Over Voltage Protection IC
footprint 10-Lead MSOP Package (National Semiconductor Package Number MUB10A 10-Lead MSOP Package); pin to pad 1>10 2>1 3>2 4>3 5>4 6>5 7>6 8>7 9>8 10>9 11>10 12>10 13>10
pins: 1 TMR "Timer", 2 FB "Feedback Voltage", 3 OUT "Output Voltage", 4 GATE (out) "FET Drive Output", 5 SNS "Current Sense", 6 VCC (power) "Supply Voltage", 7 SHDN (in) "Shutdown", 8 FLT (in) "Fault", 9 EN (in) "Enable", 10 GND (power) "Ground", 11 AOUT (power) "Supply Voltage", 12 IN+ (power) "Supply Voltage", 13 GND-PAD (power) "GND"

## LT6106
designator IC?, comment CS Amp
Current Sense Amp Current mode
pins: 1 OUT, 2 V-, 3 -IN, 4 +IN, 5 V+

## LTC1871
designator IC?
No RSENSE Boost CTRLR
footprint MSOP-10 MS (MSOP, 10-Leads, Body 3.1x3.1mm (max), Pitch 0.50mm, IPC Medium Density)
pins: 1 RUN, 2 ITH, 3 FB, 4 FREQ, 5 MODE/SYNC, 6 GND, 7 GATE, 8 INTVcc, 9 VIN, 10 SNS

## LTC2054
designator IC?, comment Op Amp
Op Amp low bias
pins: 1 OUT, 2 V-, 3 +IN, 4 V+, 5 -IN

## LTC2854
designator ICD?
RS-485 Transceiver
pins: 1 RO, 2 ~{RE} (in), 3 DE (in) "Driver Enable Input", 4 DI "Internal NC", 5 TE, 6 GND (power) "Logic side ground", 7 NC, 8 A (io) "Noninverting Driver Output and Noninverting Receiver Input", 9 B (io) "Inverting Driver Output and Inverting Receiver Input", 10 VCC (power) "Logic side +5V", EP GND (power) "Logic side ground"

## LTC3813
designator IC?  (value not drawn)
100v Synchronous Boost Controller
footprint SSOP-28 (LTC 28-Lead Plastic SSOP (5.3mm) IPC Medium Density)
pins: 1 Ioff "I off", 2 NC, 3 NC, 4 Voff, 5 Vrng, 6 Pgood, 7 Sync, 8 Ith, 9 Vfb, 10 PLL/LPF, 11 SS, 12 Sgnd, 13 Shdn, 14 UVin, 15 Ndrv, 16 ExtVcc, 17 IntVcc, 18 DRVcc, 19 BG, 20 BGRTN, 21 Sense -, 22 NC, 23 NC, 24 NC, 25 Sense +, 26 SW, 27 TG, 28 Boost

## LTC3862-1
designator IC?  (value not drawn)
Multi-Phase Current Mode  Step-Up DC/DC Controller
footprint FE Package (24-Lead Plastic TSSOP (4.4mm) (Reference LTC DWG # 05-08-1663))
footprint UH Package (UH Package  24-Lead Plastic QFN (5mm × 5mm))
pins: 1 Dmax "Max Duty", 2 Slope, 3 Blank, 4 PhaseMode, 5 Freq, 6 SS, 7 ITH, 8 FB, 9 SGnd, 10 ClkOut, 11 Sync, 12 PLLFltr, 13 Sense2+, 14 Sense2-, 15 NC, 16 Gate2, 17 PGnd, 18 Gate1, 19 IntVCC, 20 Vin, 21 Run, 22 Sense1-, 23 Sense1+, 24 3V8, 25 Gnd hidden to GND

## LTC3862-1_1
designator IC1, comment LTC3862-1  (value not drawn)
Multi-Phase Current Mode  Step-Up DC/DC Controller
footprint UH Package (UH Package  24-Lead Plastic QFN (5mm × 5mm))
pins: 1 Dmax "Max Duty", 2 Slope, 3 Blank, 4 PhaseMode, 5 Freq, 6 SS, 7 ITH, 8 FB, 9 SGnd, 10 ClkOut, 11 Sync, 12 PLLFltr, 13 Sense2+, 14 Sense2-, 15 NC, 16 Gate2, 17 PGnd, 18 Gate1, 19 IntVCC, 20 Vin, 21 Run, 22 Sense1-, 23 Sense1+, 24 3V8, 25 Gnd hidden to GND

## LTM2881
designator *
footprint LTM2881 LGA32 (LGA, 32-Leads, Body 15.0x11.3mm,  Pitch 1.27mm)
pins: A1 Dout, A2 TE, A3 DI, A4 DE, A5 ~{RE}, A6 RO, A7 VL, A8 ON, B1 GND, B6 VCC, K1 GND2, L1 Din, L2 SLO, L3 Y, L4 Z, L5 B, L6 A, L7 VCC2

## MAX1480
designator IC?
Isolated RS-485 Transceiver
pins: 1 VCC1 (power) "Logic side +5V", 2 VCC2 (power) "Logic side +5V", 3 D1 "Internal NC", 4 D2 "Internal NC", 5 GND (power) "Logic side ground", 6 FS (in) "Frequency Select Input", 7 SD (in) "Shutdown Input", 8 VCC3 (power) "Logic side +5V", 9 DI (in) "Driver Input", 10 VCC4 (power) "Logic side +5V", 11 DE (in) "Driver Enable Input", 12 GND2 (power) "Logic Side Ground", 13 RO (out) "Receiver Output", 14 VCC5 (power) "Logic Side +5V", 15 ISO RO LED (out) "Isolated Receiver Output LED", 16 ISO COM2 (power) "Isolated Common", 17 ISO DE DRV (in) "Isolated Driver-Enable Drive", 18 ISO VCC2 (power) "Isolated Supply Voltage", 19 ISO DI DRV (in) "Isolated Driver-Input Drive", 20 ISO COM1 (power) "Isolated Common", 21 ISO DE IN (in) "Isolated Driver-Enable Input", 22 ISO DI IN (in) "Isolated Driver Input", 23 A (io) "Noninverting Driver Output and Noninverting Receiver Input", 24 ISO RO DRV (out) "Isolated Receiver-Output Drive", 25 B (io) "Inverting Driver Output and Inverting Receiver Input", 26 ISO VCC1 (power) "Isolated Supply Voltage Source", 27 AC2 "NC", 28 AC1 "NC"
text: MAX1480A

## MAX4236
designator IC?
CMOS Input, RRIO, Wide Supply Range Operational  Amplifier
footprint SOT-23-6 (SOT-23-6 Package)
pins: 1 OUT (out), 2 V- (power) "Ground", 3 IN+ (in), 4 IN- (in), 5 SHDN (power) "Supply Voltage", 6 V+

## MAX6495
designator IC?
OVP
footprint TDFN-8 (Maxim TDFN, 8-Leads, Body 3x3mm, Pitch 0.65mm, IPC Medium Density)
pins: 1 IN, 2 SHDN, 3 OVSET, 4 NC, 5 GND, 6 GATE, 7 OUTFB, 8 NC

## MAX6510
designator IC?
Temp Sensor
footprint SuperSOT-6 (Fairchild SuperSOT-6 Dual Transistor Package)
pins: 1 SET "Set Temp Threshold", 2 GND (power) "Ground", 3 OUT (power) "Output", 4 HYST "Set Hysteris", 5 OUTSET "Mode", 6 VCC (power) "Supply Voltage max 6v"

## MAX9618
designator IC?
CMOS Input, RRIO, Wide Supply Range Operational  Amplifier
pins: 1 OUTA (out), 2 INA- (in), 3 INA+ (in) "IN+", 4 GND (power), 5 INB+ (in), 6 INB- (in), 7 OUTB (out), 8 VDD

## MCP6V27
designator ICA?
620 µA, 2 MHz Auto-Zeroed Op Amps
footprint MSOP-8 for MCPV2x (MSOP, 8-Leads, Body 3.0x3.0mm (max), Pitch 0.65mm, IPC Medium Density)
pins: 1 outA (out), 2 inA- (in), 3 inA+ (in), 4 Vss (power), 5 inB+ (in), 6 inB- (in), 7 outB (out), 8 Vdd (power)

## MCP6V31
designator IC?
23 µA, 300 kHz zero drift Op Amps
footprint SOT-23-5 (SOT-23-5 Package)
pins: 1 Vout (out), 2 Vss (power), 3 Vin+ (in), 4 Vin- (in), 5 Vdd (power)

## MCP6V61
designator IC?
130 µA, 1 MHz zero drift Op Amps
footprint SOT-23-5 (SOT-23-5 Package)
pins: 1 Vout (out), 2 Vss (power), 3 Vin+ (in), 4 Vin- (in), 5 Vdd (power)

## MCP6V61U
designator IC?
130 µA, 1 MHz zero drift Op Amps
footprint SOT-23-5 (SOT-23-5 Package)
pins: 1 Vin+ (in), 2 Vss (power), 3 Vin- (in), 4 Vout (out), 5 Vdd (power)

## MCP23S17
designator IC?
16-Bit I/O Expander with Serial Interface
footprint Microchip 28QFN (ML) 6x6 (28-Lead Plastic Quad Flat, No Lead Package (ML) – 6x6 mm Body [QFN]  with 0.55 mm Contact Length, IPC Medium Density); pin to pad 1>25 2>26 3>27 4>28 5>1 6>2 7>3 8>4 9>5 10>6 11>7 12>8 13>9 14>10 15>11 16>12 17>13 18>14 19>15 20>16 21>17 22>18 23>19 24>20 25>21 26>22 27>23 28>24
pins: 1 GPB0 (io), 2 GPB1 (io), 3 GPB2 (io), 4 GPB3 (io), 5 GPB4 (io), 6 GPB5 (io), 7 GPB6 (io), 8 GPB7 (io), 9 VDD (power), 10 VSS (power), 11 ~{CS} (in), 12 SCK (in), 13 SI (in), 14 SO (in), 15 A0 (in), 16 A1 (in), 17 A2 (in), 18 ~{RESET} (in), 19 INTB (out), 20 INTA (out), 21 GPA0 (io), 22 GPA1 (io), 23 GPA2 (io), 24 GPA3 (io), 25 GPA4 (io), 26 GPA5 (io), 27 GPA6 (io), 28 GPA7 (io), EP GND (power)

## MCP48x2
designator IC?
SPI bus ADC
footprint MSOP-8 0.65mm (MSOP, 8-Leads, Body 3.0x4.9mm (max), Pitch 0.65mm, IPC Medium Density)
pins: 1 VDD (power), 2 CS (in), 3 SCK (in), 4 SDI (in), 5 LDAC, 6 OUTB (out), 7 VSS (power), 8 OUTA (out)

## MCP65R41
designator IC?
Comp w REF
footprint SOT-23-6 (SOT-23-6 Package)
pins: 1 OUT (out), 2 V- (power) "Ground", 3 IN+ (in), 4 IN- (in), 5 VREF "Ref Voltage", 6 V+

## MCP4152
designator IC?
SPI bus Digital Potentiometer
footprint MSOP-8 (MSOP, 8-Leads, Body 3.0x5.1mm (max), Pitch 0.50mm, IPC Medium Density)
footprint Microchip DFN-8 3x3mm 0.9mm (MF) (DFN, 8-Leads, Body 3x3mm, Height 0.9mm, IPC Medium Density)
pins: 1 CS (in), 2 SCK (in), 3 SDI (in), 4 VSS (power), 5 P0W, 6 P0B, 7 SDO (out), 8 VDD (power)

## MCP4251
designator *
footprint QFN-16 (ML) (QFN, 16-Leads, Body 4.0x4.0mm (max), Pitch 0.65mm, Microchip ML, IPC Medium Density)
pins: 1 SCK, 2 SDI, 3 VSS, 4 VSS, 5 P1B, 6 P1W, 7 P1A, 8 P0A, 9 P0W, 10 P0B, 11 NC, 12 WP, 13 SHDN, 14 SDO, 15 VDD, 16 CS, 17 EP

## MCP4921
designator IC?
SPI bus Digital Potentiometer
footprint MSOP-8, 3mmx3mm, 0.65mm (MSOP, 8-Leads, Body 3.0x3.0mm (max), Pitch 0.65mm, IPC Medium Density)
pins: 1 VDD (power), 2 CS (in), 3 SCK (in), 4 SDI (in), 5 LDAC, 6 VREF, 7 VSS (power), 8 V_OUT

## MCP6001
designator IC?
1 MHz Low-Power Op Amp
footprint SOT-23-5 (SOT-23-5 Package)
pins: 1 Vout (out), 2 Vss (power), 3 Vin+ (in), 4 Vin- (in), 5 Vdd (power)

## MCP9700
designator IC?
Analog Temp Sensor
footprint SC-70-5 (SC-70, 5-Leads, Body 2.2x2.4mm (max), Pitch 0.65mm, IPC Medium Density)
footprint SOT-23-OnSemi (SOT23-3); pin to pad 2>3 3>2 4>1
pins: 2 GND (power) "Ground", 3 V_OUT (out) "Voltage Output", 4 VDD (power) "Supply Voltage"

## MIC833
designator CMP?
Comparator Latch SOT23-5
footprint SOT-23-5 (SOT-23-5 Package)
pins: 1 HTH "High Threshold", 2 GND (power) "Ground", 3 LTH "Low Threshold", 4 OUT (out) "Output", 5 VDD (power) "Supply Voltage"

## MIC841
designator IC?
Comparator w/ reference and adjust hysteresis
footprint SC-70-5 (SC-70, 5-Leads, Body 2.2x2.4mm (max), Pitch 0.65mm, IPC Medium Density)
pins: 1 HTH "High Threshold", 2 GND (power) "Ground", 3 LTH "Low Threshold", 4 OUT (out) "Output", 5 VDD (power) "Supply Voltage"

## MIC842
designator CMP?
Comparator with Reference
footprint SC-70-5 (SC-70, 5-Leads, Body 2.2x2.4mm (max), Pitch 0.65mm, IPC Medium Density)
pins: 1 INP "Input Voltage", 2 GND (power) "Ground", 4 OUT "Output", 5 VDD (power) "Supply Voltage"

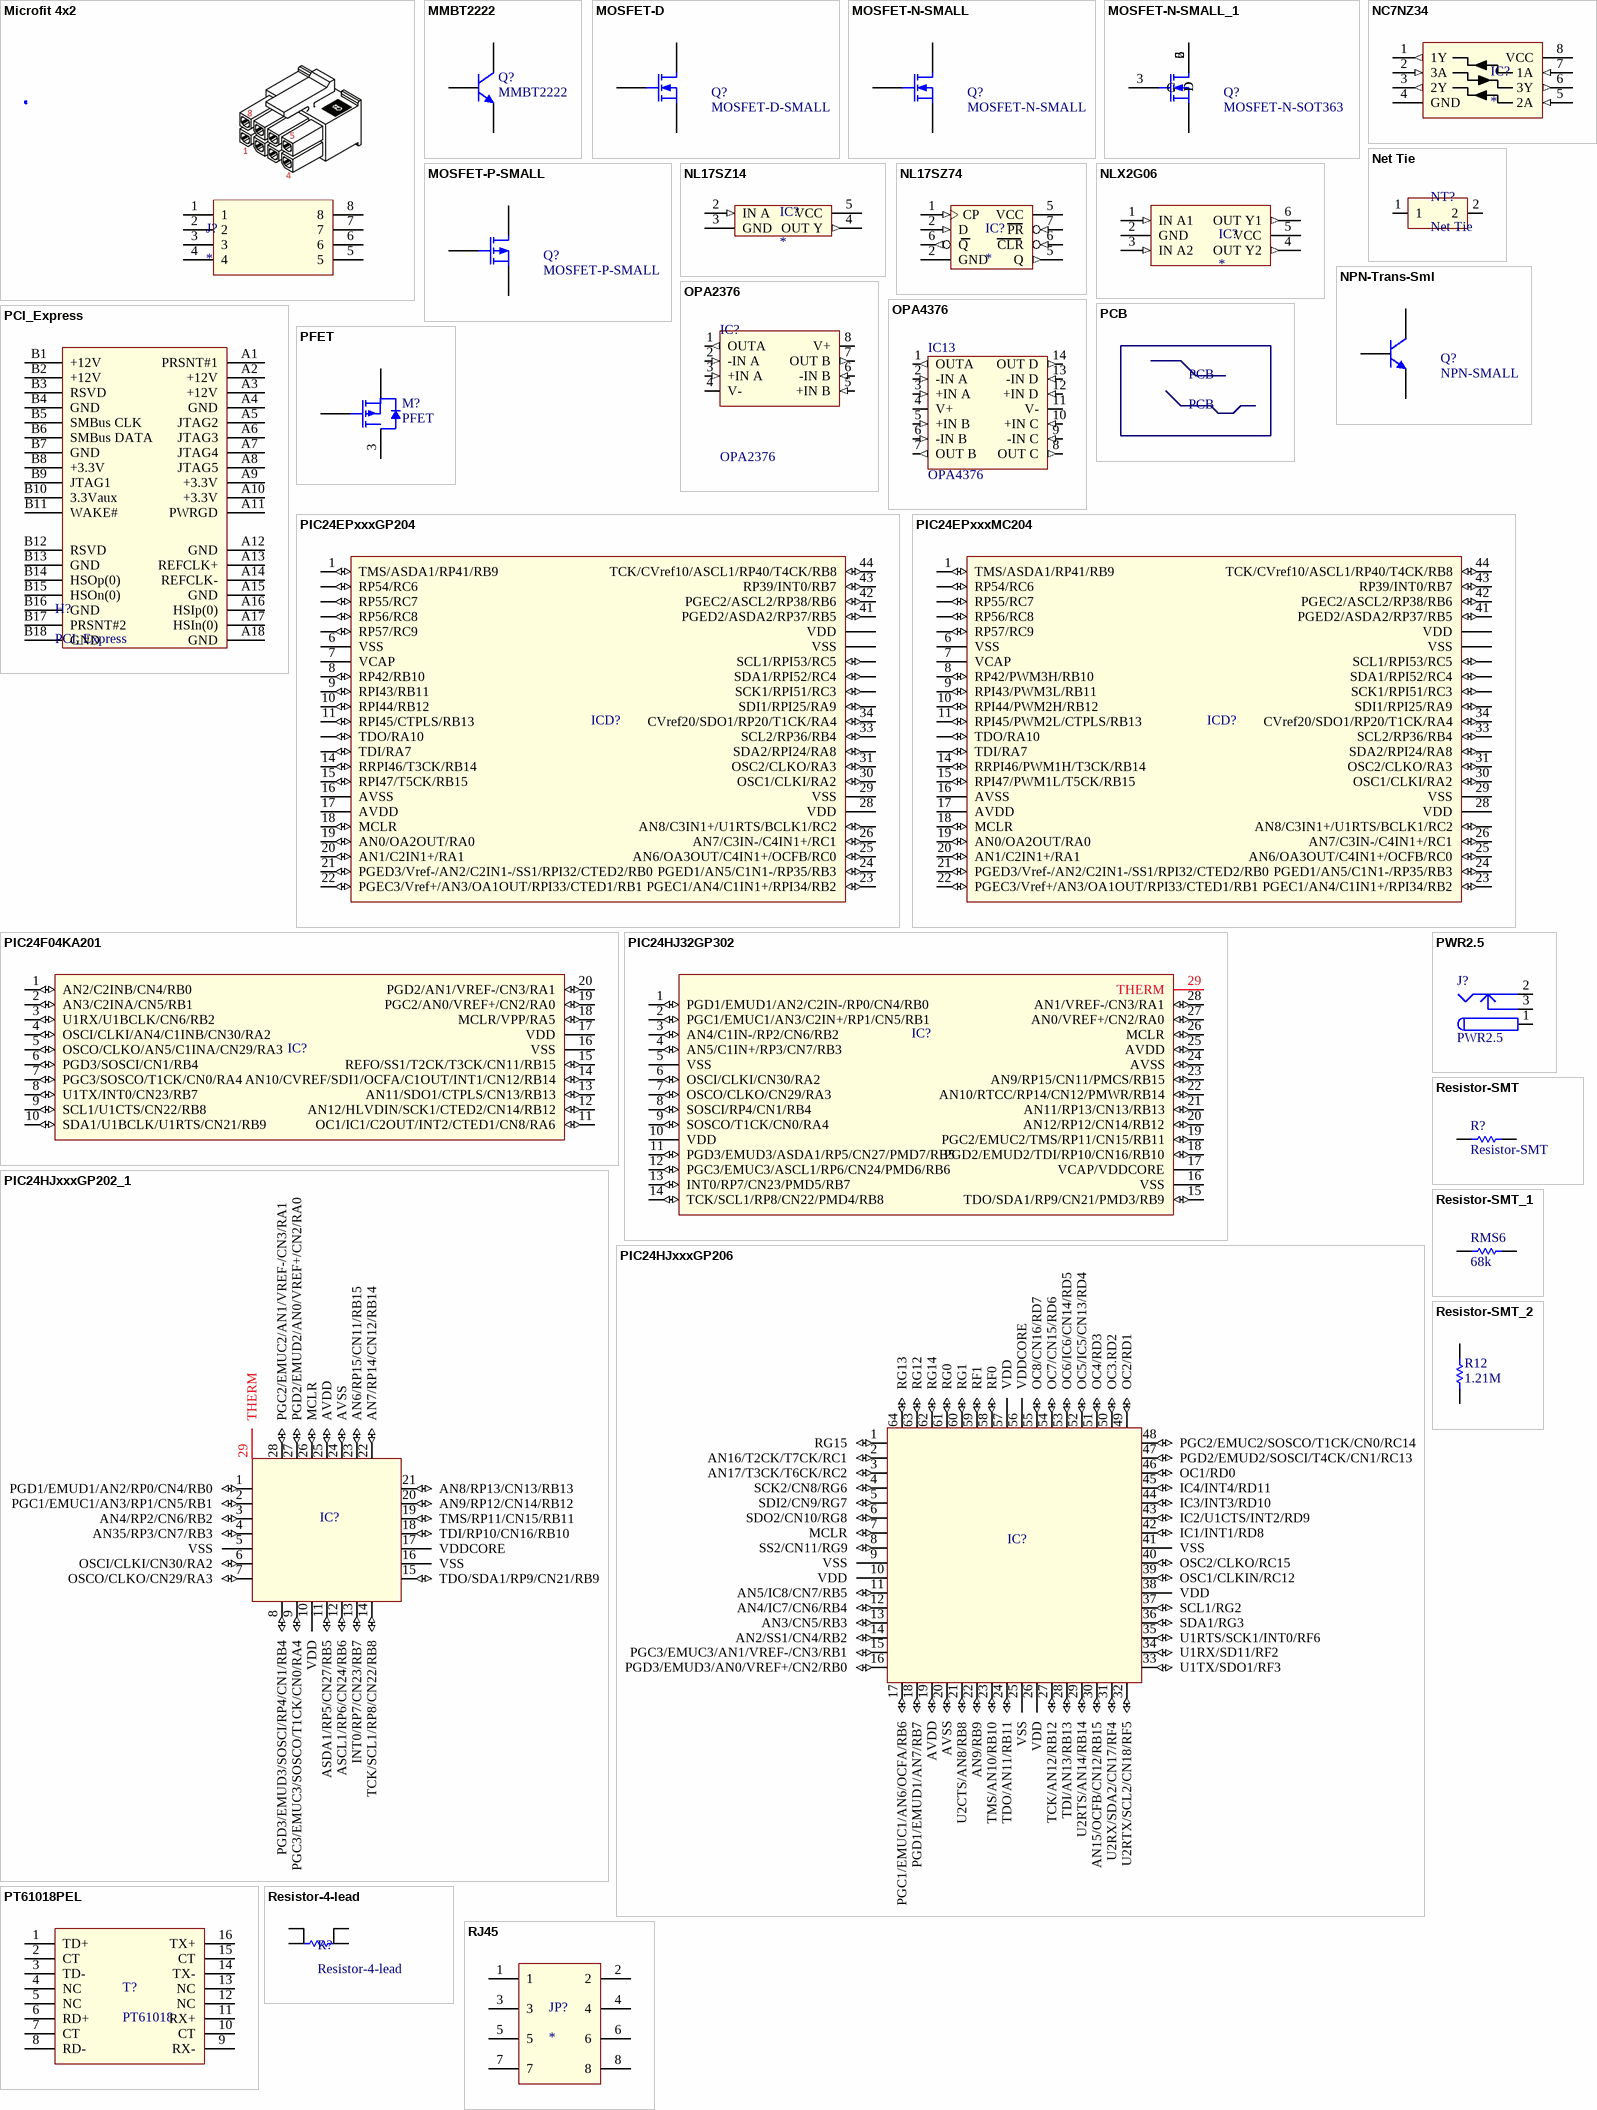
[diagram p3: symbols Microfit 4x2 to RJ45]

## Microfit 4x2
designator J?
pins: 1, 2, 3, 4, 5, 6, 7, 8

## MMBT2222
designator Q?
NPN Bipolar Transistor; Published: 8-Jun-2000; LatestRevisionDate: 17-Jul-2002; LatestRevisionNote: Re-released for DXP Platform.; PackageReference: TO-226; Publisher: Altium Limited; Code_JEDEC: TO-226-AA
signal-integrity model NPN
footprint SOT-23 (SOT23-3)
pins: 1 B, 2 E, 3 C

## MOSFET-D
designator Q?, comment MOSFET-D-SMALL
N-Channel Depletion Mode MOSFET
footprint SOT-23-OnSemi (SOT23-3)
pins: 1 G, 2 S, 3 D

## MOSFET-N-SMALL
designator Q?
Small Signal N-Channel MOSFET; PackageDocument: 1995/1996; Published: 8-Jun-2000; LatestRevisionDate: 17-Jul-2002; LatestRevisionNote: Re-released for DXP Platform.; PackageReference: E3; Publisher: Altium Limited
footprint SOT323 - Fairchild (SOT323, 3-Leads, Body 2.2x2.2mm (max), Pitch 0.65mm, IPC Medium Density)
footprint SOT-23-OnSemi (SOT23-3)
pins: 1 G, 2 S, 3 D

## MOSFET-N-SMALL_1
designator Q?, comment MOSFET-N-SOT363
N-Channel MOSFET SOT-363 SC-70; PackageDocument: 1995/1996; Published: 8-Jun-2000; LatestRevisionDate: 17-Jul-2002; LatestRevisionNote: Re-released for DXP Platform.; PackageReference: E3; Publisher: Altium Limited
footprint SC-70-6 (SC-70 6-Leads, Body 2.2x2.4mm (max), Pitch 0.65mm, IPC Medium Density)
pins: 1 D, 2 D, 3 G, 4 S, 5 D, 6 D

## MOSFET-P-SMALL
designator Q?
Small Signal P-Channel MOSFET
footprint SOT323 - Fairchild (SOT323, 3-Leads, Body 2.2x2.2mm (max), Pitch 0.65mm, IPC Medium Density)
footprint SOT-23-OnSemi (SOT23-3)
pins: 1 G, 2 S, 3 D

## NC7NZ34
designator IC?
Triple Buffer
footprint MicroPak 8 Lead 1.6mm (QFN, 8-Leads, Body 1.6x1.6mm (max), Pitch 0.50mm, IPC Medium Density)
pins: 1 1Y (out), 2 3A (in), 3 2Y (out), 4 GND (power), 5 2A (in), 6 3Y (out), 7 1A (in), 8 VCC (power)

## Net Tie
designator NT?  (net tie, no BOM)
footprint Net Tie
pins: 1 (power), 2 (power)

## NL17SZ14
designator IC?
Single Inverter Schmitt trigger
pins: 1 NC hidden, 2 IN A (in), 3 GND (power), 4 OUT Y (out), 5 VCC (power)

## NL17SZ74
designator IC?
D-Flop with S/R
pins: 1 CP (in), 2 GND (power), 2 D (in), 5 VCC (power), 5 Q (out), 6 Q (out), 6 CLR (in), 7 PR (in)

## NLX2G06
designator IC?
Dual Inverter, Open Drain
pins: 1 IN A1 (in), 2 GND (power), 3 IN A2 (in), 4 OUT Y2 (out), 5 VCC (power), 6 OUT Y1 (out)

## NPN-Trans-Sml
designator Q?, comment NPN-SMALL
Small Signal NPN Transistor; PackageDocument: 1995/1996; Published: 8-Jun-2000; LatestRevisionDate: 17-Jul-2002; LatestRevisionNote: Re-released for DXP Platform.; PackageReference: E3; Publisher: Altium Limited
footprint SOT323 - Fairchild (SOT323, 3-Leads, Body 2.2x2.2mm (max), Pitch 0.65mm, IPC Medium Density)
footprint SOT-23-OnSemi (SOT23-3)
pins: 1 B, 2 E, 3 C

## OPA2376
designator IC?
Value: OPA2376; Part Number: OPA2376; Supplier: Farnell
footprint MSOP-8, 3mmx3mm, 0.65mm (MSOP, 8-Leads, Body 3.0x3.0mm (max), Pitch 0.65mm, IPC Medium Density)
pins: 1 OUTA (out), 2 -IN A (in), 3 +IN A (in), 4 V- (power), 5 +IN B (in), 6 -IN B (in), 7 OUT B (out), 8 V+ (power)

## OPA4376
designator IC13
Order Number: 1560642; Value: OPA4376; Package: TSSOP-14; Part Number: OPA4376; Supplier: Farnell
footprint TSSOP-14 (TSOP, 14-Leads, Body 5,00x4,40mm, Pitch 0,65mm, IPC High Density)
pins: 1 OUTA (out), 2 -IN A (in), 3 +IN A (in), 4 V+ (power), 5 +IN B (in), 6 -IN B (in), 7 OUT B (out), 8 OUT C (out), 9 -IN C (in), 10 +IN C (in), 11 V- (power), 12 +IN D (in), 13 -IN D (in), 14 OUT D (out)

## PCB
designator PCB

## PCI_Express
designator H?
SMT PCI Express Card Holder from FCI
footprint PCI_CONN_VERT_SMD
footprint PCI_CONN_VERT_SMD
footprint PCI_CONN_EDGE_36
pins: A1 PRSNT#1 "Hot plug presence detect", A2 +12V, A3 +12V, A4 GND, A5 JTAG2 "TCK", A6 JTAG3 "TDI", A7 JTAG4 "TDO", A8 JTAG5 "TMS", A9 +3.3V "TMS", A10 +3.3V "TMS", A11 PWRGD "Power Good", A12 GND "Power Good", A13 REFCLK+ "Reference Clock, Differential pair", A14 REFCLK- "Reference Clock, Differential pair", A15 GND, A16 HSIp(0) "Receiver Lane 0,  Differential pair", A17 HSIn(0) "Receiver Lane 0,  Differential pair", A18 GND, B1 +12V, B2 +12V, B3 RSVD, B4 GND, B5 SMBus CLK, B6 SMBus DATA, B7 GND, B8 +3.3V, B9 JTAG1 "+TRST#", B10 3.3Vaux "3.3v volt power", B11 WAKE# "Link Reactivation", B12 RSVD "Reserved", B13 GND, B14 HSOp(0) "Transmitter Lane 0,  Differential pair", B15 HSOn(0) "Transmitter Lane 0,  Differential pair", B16 GND, B17 PRSNT#2 "Hotplug Detect", B18 GND "Hotplug Detect"

## PFET
designator M?
P-Channel MOSFET
footprint SOT89 (SOT89, 3-Leads, Body 4,50x2,45mm, Pitch 1,50mm, Lead Span 4,1mm, IPC High Density)
pins: 1 G, 2 D, 3 S

## PIC24EPxxxGP204
designator ICD?, comment MCU  (value not drawn)
PIC MCU 16 bit 40 MIPS
footprint QFN-44 (44 Lead Plastic Quad Flat, No Lead Pckage (ML) - 8x8 mm Body  (QFN))
pins: 1 TMS/ASDA1/RP41/RB9 (io), 2 RP54/RC6 (io), 3 RP55/RC7 (io), 4 RP56/RC8 (io), 5 RP57/RC9 (io), 6 VSS (power) "Ground", 7 VCAP, 8 RP42/RB10 (io), 9 RPI43/RB11 (io), 10 RPI44/RB12 (io), 11 RPI45/CTPLS/RB13 (io), 12 TDO/RA10 (io), 13 TDI/RA7 (io), 14 RRPI46/T3CK/RB14 (io), 15 RPI47/T5CK/RB15 (io), 16 AVSS, 17 AVDD, 18 MCLR (io), 19 AN0/OA2OUT/RA0 (io), 20 AN1/C2IN1+/RA1 (io), 21 PGED3/Vref-/AN2/C2IN1-/SS1/RPI32/CTED2/RB0 (io), 22 PGEC3/Vref+/AN3/OA1OUT/RPI33/CTED1/RB1 (io), 23 PGEC1/AN4/C1IN1+/RPI34/RB2 (io), 24 PGED1/AN5/C1N1-/RP35/RB3 (io), 25 AN6/OA3OUT/C4IN1+/OCFB/RC0 (io), 26 AN7/C3IN-/C4IN1+/RC1 (io), 27 AN8/C3IN1+/U1RTS/BCLK1/RC2 (io), 28 VDD (power) "Supply Voltage 3.3 V", 29 VSS (power) "Ground", 30 OSC1/CLKI/RA2 (io), 31 OSC2/CLKO/RA3 (io), 32 SDA2/RPI24/RA8 (io), 33 SCL2/RP36/RB4 (io), 34 CVref20/SDO1/RP20/T1CK/RA4 (io), 35 SDI1/RPI25/RA9 (io), 36 SCK1/RPI51/RC3 (io), 37 SDA1/RPI52/RC4 (io), 38 SCL1/RPI53/RC5 (io), 39 VSS (power), 40 VDD (power), 41 PGED2/ASDA2/RP37/RB5 (io), 42 PGEC2/ASCL2/RP38/RB6 (io), 43 RP39/INT0/RB7 (io), 44 TCK/CVref10/ASCL1/RP40/T4CK/RB8 (io)

## PIC24EPxxxMC204
designator ICD?, comment MCU  (value not drawn)
PIC MCU 16 bit 40 MIPS
footprint QFN-44 (44 Lead Plastic Quad Flat, No Lead Pckage (ML) - 8x8 mm Body  (QFN))
pins: 1 TMS/ASDA1/RP41/RB9 (io), 2 RP54/RC6 (io), 3 RP55/RC7 (io), 4 RP56/RC8 (io), 5 RP57/RC9 (io), 6 VSS (power) "Ground", 7 VCAP, 8 RP42/PWM3H/RB10 (io), 9 RPI43/PWM3L/RB11 (io), 10 RPI44/PWM2H/RB12 (io), 11 RPI45/PWM2L/CTPLS/RB13 (io), 12 TDO/RA10 (io), 13 TDI/RA7 (io), 14 RRPI46/PWM1H/T3CK/RB14 (io), 15 RPI47/PWM1L/T5CK/RB15 (io), 16 AVSS, 17 AVDD, 18 MCLR (io), 19 AN0/OA2OUT/RA0 (io), 20 AN1/C2IN1+/RA1 (io), 21 PGED3/Vref-/AN2/C2IN1-/SS1/RPI32/CTED2/RB0 (io), 22 PGEC3/Vref+/AN3/OA1OUT/RPI33/CTED1/RB1 (io), 23 PGEC1/AN4/C1IN1+/RPI34/RB2 (io), 24 PGED1/AN5/C1N1-/RP35/RB3 (io), 25 AN6/OA3OUT/C4IN1+/OCFB/RC0 (io), 26 AN7/C3IN-/C4IN1+/RC1 (io), 27 AN8/C3IN1+/U1RTS/BCLK1/RC2 (io), 28 VDD (power) "Supply Voltage 3.3 V", 29 VSS (power) "Ground", 30 OSC1/CLKI/RA2 (io), 31 OSC2/CLKO/RA3 (io), 32 SDA2/RPI24/RA8 (io), 33 SCL2/RP36/RB4 (io), 34 CVref20/SDO1/RP20/T1CK/RA4 (io), 35 SDI1/RPI25/RA9 (io), 36 SCK1/RPI51/RC3 (io), 37 SDA1/RPI52/RC4 (io), 38 SCL1/RPI53/RC5 (io), 39 VSS (power), 40 VDD (power), 41 PGED2/ASDA2/RP37/RB5 (io), 42 PGEC2/ASCL2/RP38/RB6 (io), 43 RP39/INT0/RB7 (io), 44 TCK/CVref10/ASCL1/RP40/T4CK/RB8 (io)

## PIC24F04KA201
designator IC?, comment MCU  (value not drawn)
PIC MCU 16 bit 40 MIPS
footprint QFN20 (MQ) (20-Lead Plastic Quad Flat, No Lead Package (MQ) - 5x5x0.9 mm Body [QFN])
pins: 1 AN2/C2INB/CN4/RB0 (io), 2 AN3/C2INA/CN5/RB1 (io), 3 U1RX/U1BCLK/CN6/RB2 (io), 4 OSCI/CLKI/AN4/C1INB/CN30/RA2 (io), 5 OSCO/CLKO/AN5/C1INA/CN29/RA3 (io), 6 PGD3/SOSCI/CN1/RB4 (io), 7 PGC3/SOSCO/T1CK/CN0/RA4 (io), 8 U1TX/INT0/CN23/RB7 (io), 9 SCL1/U1CTS/CN22/RB8 (io), 10 SDA1/U1BCLK/U1RTS/CN21/RB9 (io), 11 OC1/IC1/C2OUT/INT2/CTED1/CN8/RA6 (io), 12 AN12/HLVDIN/SCK1/CTED2/CN14/RB12 (io), 13 AN11/SDO1/CTPLS/CN13/RB13 (io), 14 AN10/CVREF/SDI1/OCFA/C1OUT/INT1/CN12/RB14 (io), 15 REFO/SS1/T2CK/T3CK/CN11/RB15 (io), 16 VSS (power), 17 VDD (power), 18 MCLR/VPP/RA5 (io), 19 PGC2/AN0/VREF+/CN2/RA0 (io), 20 PGD2/AN1/VREF-/CN3/RA1 (io)

## PIC24HJ32GP302
designator IC?, comment MCU  (value not drawn)
PIC MCU 16 bit 40 MIPS
footprint Microchip 28QFN (ML) 6x6 (28-Lead Plastic Quad Flat, No Lead Package (ML) – 6x6 mm Body [QFN]  with 0.55 mm Contact Length, IPC Medium Density)
pins: 1 PGD1/EMUD1/AN2/C2IN-/RP0/CN4/RB0 (io), 2 PGC1/EMUC1/AN3/C2IN+/RP1/CN5/RB1 (io), 3 AN4/C1IN-/RP2/CN6/RB2 (io), 4 AN5/C1IN+/RP3/CN7/RB3 (io), 5 VSS (power) "Ground", 6 OSCI/CLKI/CN30/RA2 (io), 7 OSCO/CLKO/CN29/RA3 (io), 8 SOSCI/RP4/CN1/RB4 (io), 9 SOSCO/T1CK/CN0/RA4 (io), 10 VDD (power) "Supply Voltage 3.3 V", 11 PGD3/EMUD3/ASDA1/RP5/CN27/PMD7/RB5 (io), 12 PGC3/EMUC3/ASCL1/RP6/CN24/PMD6/RB6 (io), 13 INT0/RP7/CN23/PMD5/RB7 (io), 14 TCK/SCL1/RP8/CN22/PMD4/RB8 (io), 15 TDO/SDA1/RP9/CN21/PMD3/RB9 (io), 16 VSS (power) "Ground", 17 VCAP/VDDCORE, 18 PGD2/EMUD2/TDI/RP10/CN16/RB10 (io), 19 PGC2/EMUC2/TMS/RP11/CN15/RB11 (io), 20 AN12/RP12/CN14/RB12 (io), 21 AN11/RP13/CN13/RB13 (io), 22 AN10/RTCC/RP14/CN12/PMWR/RB14 (io), 23 AN9/RP15/CN11/PMCS/RB15 (io), 24 AVSS (io), 25 AVDD (io), 26 MCLR (io), 27 AN0/VREF+/CN2/RA0 (io), 28 AN1/VREF-/CN3/RA1 (io), 29 THERM

## PIC24HJxxxGP202_1
designator IC?, comment MCU  (value not drawn)
PIC MCU 16 bit 40 MIPS
footprint Microchip 28QFN (ML) 6x6 (28-Lead Plastic Quad Flat, No Lead Package (ML) – 6x6 mm Body [QFN]  with 0.55 mm Contact Length, IPC Medium Density)
pins: 1 PGD1/EMUD1/AN2/RP0/CN4/RB0 (io), 2 PGC1/EMUC1/AN3/RP1/CN5/RB1 (io), 3 AN4/RP2/CN6/RB2 (io), 4 AN35/RP3/CN7/RB3 (io), 5 VSS (power) "Ground", 6 OSCI/CLKI/CN30/RA2 (io), 7 OSCO/CLKO/CN29/RA3 (io), 8 PGD3/EMUD3/SOSCI/RP4/CN1/RB4 (io), 9 PGC3/EMUC3/SOSCO/T1CK/CN0/RA4 (io), 10 VDD (power) "Supply Voltage 3.3 V", 11 ASDA1/RP5/CN27/RB5 (io), 12 ASCL1/RP6/CN24/RB6 (io), 13 INT0/RP7/CN23/RB7 (io), 14 TCK/SCL1/RP8/CN22/RB8 (io), 15 TDO/SDA1/RP9/CN21/RB9 (io), 16 VSS (power) "Ground", 17 VDDCORE, 18 TDI/RP10/CN16/RB10 (io), 19 TMS/RP11/CN15/RB11 (io), 20 AN9/RP12/CN14/RB12 (io), 21 AN8/RP13/CN13/RB13 (io), 22 AN7/RP14/CN12/RB14 (io), 23 AN6/RP15/CN11/RB15 (io), 24 AVSS (io), 25 AVDD (io), 26 MCLR (io), 27 PGD2/EMUD2/AN0/VREF+/CN2/RA0 (io), 28 PGC2/EMUC2/AN1/VREF-/CN3/RA1 (io), 29 THERM

## PIC24HJxxxGP206
designator IC?, comment MCU  (value not drawn)
PIC MCU 16 bit 40 MIPS
footprint TQFP-64 (PT) (TQFP, 64-Leads, Body 10x10mm, Pitch 0.50mm, IPC Medium Density)
pins: 1 RG15 (io), 2 AN16/T2CK/T7CK/RC1 (io), 3 AN17/T3CK/T6CK/RC2 (io), 4 SCK2/CN8/RG6 (io), 5 SDI2/CN9/RG7 (io), 6 SDO2/CN10/RG8 (io), 7 MCLR (io), 8 SS2/CN11/RG9 (io), 9 VSS (power) "Ground", 10 VDD (power) "Supply Voltage 3.3 V", 11 AN5/IC8/CN7/RB5 (io), 12 AN4/IC7/CN6/RB4 (io), 13 AN3/CN5/RB3 (io), 14 AN2/SS1/CN4/RB2 (io), 15 PGC3/EMUC3/AN1/VREF-/CN3/RB1 (io), 16 PGD3/EMUD3/AN0/VREF+/CN2/RB0 (io), 17 PGC1/EMUC1/AN6/OCFA/RB6 (io), 18 PGD1/EMUD1/AN7/RB7 (io), 19 AVDD (io), 20 AVSS (io), 21 U2CTS/AN8/RB8 (io), 22 AN9/RB9 (io), 23 TMS/AN10/RB10 (io), 24 TDO/AN11/RB11 (io), 25 VSS (power) "Ground", 26 VDD (power) "Supply Voltage 3.3 V", 27 TCK/AN12/RB12 (io), 28 TDI/AN13/RB13 (io), 29 U2RTS/AN14/RB14 (io), 30 AN15/OCFB/CN12/RB15 (io), 31 U2RX/SDA2/CN17/RF4 (io), 32 U2RTX/SCL2/CN18/RF5 (io), 33 U1TX/SDO1/RF3 (io), 34 U1RX/SD11/RF2 (io), 35 U1RTS/SCK1/INT0/RF6 (io), 36 SDA1/RG3 (io), 37 SCL1/RG2 (io), 38 VDD (power) "Supply Voltage 3.3 V", 39 OSC1/CLKIN/RC12 (io), 40 OSC2/CLKO/RC15 (io), 41 VSS (power) "Ground", 42 IC1/INT1/RD8 (io), 43 IC2/U1CTS/INT2/RD9 (io), 44 IC3/INT3/RD10 (io), 45 IC4/INT4/RD11 (io), 46 OC1/RD0 (io), 47 PGD2/EMUD2/SOSCI/T4CK/CN1/RC13 (io), 48 PGC2/EMUC2/SOSCO/T1CK/CN0/RC14 (io), 49 OC2/RD1 (io), 50 OC3.RD2 (io), 51 OC4/RD3 (io), 52 OC5/IC5/CN13/RD4 (io), 53 OC6/IC6/CN14/RD5 (io), 54 OC7/CN15/RD6 (io), 55 OC8/CN16/RD7 (io), 56 VDDCORE, 57 VDD (power) "Supply Voltage 3.3 V", 58 RF0 (io), 59 RF1 (io), 60 RG1 (io), 61 RG0 (io), 62 RG14 (io), 63 RG12 (io), 64 RG13 (io)

## PT61018PEL
designator T?, comment PT61018
LAN 10/100 Base-Tx Transformer; Value: PT61018
pins: 1 TD+, 2 CT, 3 TD-, 4 NC, 5 NC, 6 RD+, 7 CT, 8 RD-, 9 RX-, 10 CT, 11 RX+, 12 NC, 13 NC, 14 TX-, 15 CT, 16 TX+

## PWR2.5
designator J?
Low Voltage Power Supply Connector; Published: 17-Dec-2003; DatasheetDocument: 09-May-2002; Publisher: Altium Limited; ComponentLink1Description: Manufacturer Link; ComponentLink1URL: http://domino.kycon.com/internet/Products.html
footprint KLD-0202 (DC Power Jack, 2.5mm, KLD Series, PCB Mount)
signal-integrity model Connector
footprint DC-JACK-1.0-4.5 (DC Power Jack 4.5mm DIa, 1.0mm pin)
pins: 1 (power), 2 (power), 3 (power)

## Resistor-4-lead
designator R?
Resistor; Value: 1K; Publisher: Mind Terrorists Inc.
simulation model RESISTOR (Resistor)
signal-integrity model Res
footprint LVK12 4-Lead Current Sense Resistor - duplicate (LVK12 4-Lead Current Sense Resistor 1206 Size)
pins: 1, 2, 3, 4